# EAGLE library part XC5VLX110T_FF1738 (library xilinx-virtex-v5)
xc5vlx110t_ff1738 edit this description Auto generated by make-symbol-device-package-bsdl.ulp Rev. 21 Source: xc5vlx110t_ff1738.bsd
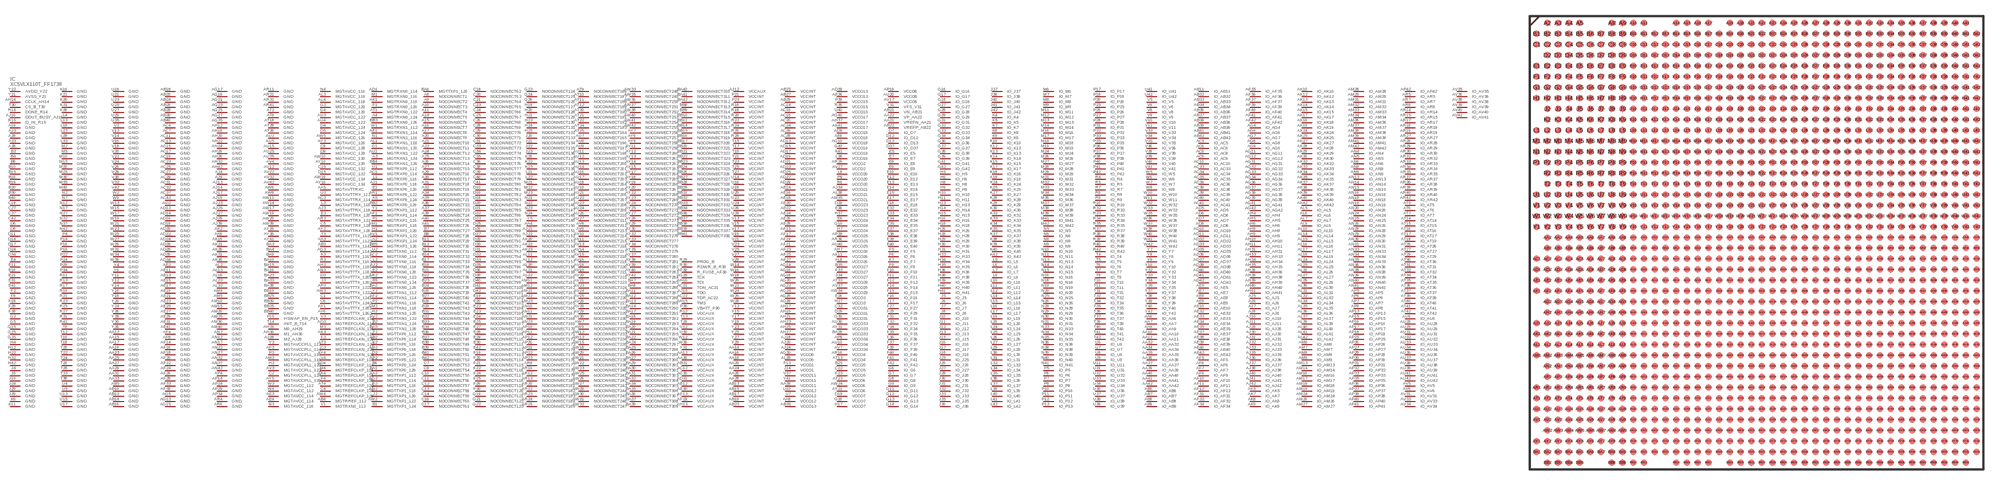
[diagram p0: symbol with the pads of FF1738; footprint FF1738]

Designator prefix IC

## XC5VLX110T_FF1738 (OC_FARNELL: unknown; OC_NEWARK: unknown)  [FF1738]
A2  MGTRXP1_124  pas
A3  MGTRXN1_124  pas
A4  MGTRXN0_124  pas
A5  MGTRXP0_124  pas
A8  NOCONNECT1  pas
A9  NOCONNECT2  pas
A10  NOCONNECT3  pas
A11  NOCONNECT4  pas
A14  NOCONNECT5  pas
A15  NOCONNECT6  pas
A16  NOCONNECT7  pas
A17  NOCONNECT8  pas
A19  GND  pwr
A20  NOCONNECT9  pas
A21  NOCONNECT10  pas
A22  NOCONNECT11  pas
A23  GND  pwr
A24  NOCONNECT12  pas
A25  NOCONNECT13  pas
A26  NOCONNECT14  pas
A27  NOCONNECT15  pas
A28  GND  pwr
A29  NOCONNECT16  pas
A30  NOCONNECT17  pas
A31  NOCONNECT18  pas
A32  NOCONNECT19  pas
A33  GND  pwr
A34  NOCONNECT20  pas
A35  NOCONNECT21  pas
A36  NOCONNECT22  pas
A37  NOCONNECT23  pas
A38  GND  pwr
A39  NOCONNECT24  pas
A40  NOCONNECT25  pas
A41  NOCONNECT26  pas
AA2  MGTTXP1_112  pas
AA3  MGTAVTTTX_1122  pas
AA4  NOCONNECT150  pas
AA5  MGTAVTTRXC  pas
AA6  IO_AA6
AA7  IO_AA7
AA8  VCCO12  pwr
AA9  IO_AA9
AA10  IO_AA10
AA11  IO_AA11
AA12  VCCAUX  pwr
AA13  GND  pwr
AA14  VCCINT  pwr
AA15  GND  pwr
AA16  VCCINT  pwr
AA17  GND  pwr
AA18  VCCINT  pwr
AA19  GND  pwr
AA20  VCCINT  pwr
AA21  VREFN_AA21  pas
AA22  VP_AA22  pas
AA23  GND  pwr
AA24  VCCINT  pwr
AA25  GND  pwr
AA26  VCCINT  pwr
AA27  GND  pwr
AA28  VCCINT  pwr
AA29  GND  pwr
AA30  VCCAUX  pwr
AA31  GND  pwr
AA32  IO_AA32
AA33  GND  pwr
AA34  IO_AA34
AA35  IO_AA35
AA36  IO_AA36
AA37  IO_AA37
AA38  VCCO11  pwr
AA39  IO_AA39
AA40  IO_AA40
AA41  IO_AA41
AA42  IO_AA42
AB2  MGTTXP0_114  pas
AB3  MGTAVTTTX_1141  pas
AB4  MGTRREF_112  pas
AB5  GND  pwr
AB6  IO_AB6
AB7  IO_AB7
AB8  IO_AB8
AB9  IO_AB9
AB10  GND  pwr
AB11  IO_AB11
AB12  GND  pwr
AB13  VCCINT  pwr
AB14  GND  pwr
AB15  VCCINT  pwr
AB16  GND  pwr
AB17  VCCINT  pwr
AB18  GND  pwr
AB19  VCCINT  pwr
AB20  GND  pwr
AB21  VN_AB21  pas
AB22  VREFP_AB22  pas
AB23  VCCINT  pwr
AB24  GND  pwr
AB25  VCCINT  pwr
AB26  GND  pwr
AB27  VCCINT  pwr
AB28  GND  pwr
AB29  VCCINT  pwr
AB30  GND  pwr
AB31  VCCAUX  pwr
AB32  IO_AB32
AB33  IO_AB33
AB34  IO_AB34
AB35  VCCO13  pwr
AB36  IO_AB36
AB37  IO_AB37
AB38  IO_AB38
AB39  IO_AB39
AB40  GND  pwr
AB41  IO_AB41
AB42  IO_AB42
AC1  MGTRXP0_114  pas
AC2  MGTTXN0_114  pas
AC3  MGTAVTTRX_114  pas
AC4  GND  pwr
AC5  IO_AC5
AC6  IO_AC6
AC7  GND  pwr
AC8  IO_AC8
AC9  IO_AC9
AC10  IO_AC10
AC11  GND  pwr
AC12  VCCAUX  pwr
AC13  GND  pwr
AC14  VCCINT  pwr
AC15  GND  pwr
AC16  VCCINT  pwr
AC17  GND  pwr
AC18  VCCINT  pwr
AC19  GND  pwr
AC20  VCCINT  pwr
AC21  TDN_AC21  pas
AC22  TDP_AC22  pas
AC23  GND  pwr
AC24  VCCINT  pwr
AC25  GND  pwr
AC26  VCCINT  pwr
AC27  GND  pwr
AC28  VCCINT  pwr
AC29  GND  pwr
AC30  VCCAUX  pwr
AC31  GND  pwr
AC32  GND  pwr
AC33  IO_AC33
AC34  IO_AC34
AC35  IO_AC35
AC36  IO_AC36
AC37  GND  pwr
AC38  IO_AC38
AC39  IO_AC39
AC40  IO_AC40
AC41  IO_AC41
AC42  GND  pwr
AD1  MGTRXN0_114  pas
AD2  GND  pwr
AD3  MGTREFCLKN_114  pas
AD4  MGTREFCLKP_114  pas
AD5  IO_AD5
AD6  IO_AD6
AD7  IO_AD7
AD8  IO_AD8
AD9  VCCO18  pwr
AD10  IO_AD10
AD11  IO_AD11
AD12  GND  pwr
AD13  VCCINT  pwr
AD14  GND  pwr
AD15  VCCINT  pwr
AD16  GND  pwr
AD17  VCCINT  pwr
AD18  GND  pwr
AD19  VCCINT  pwr
AD20  GND  pwr
AD21  VCCINT  pwr
AD22  GND  pwr
AD23  VCCINT  pwr
AD24  GND  pwr
AD25  VCCINT  pwr
AD26  GND  pwr
AD27  VCCINT  pwr
AD28  GND  pwr
AD29  VCCINT  pwr
AD30  GND  pwr
AD31  VCCAUX  pwr
AD32  IO_AD32
AD33  IO_AD33
AD34  GND  pwr
AD35  IO_AD35
AD36  IO_AD36
AD37  IO_AD37
AD38  IO_AD38
AD39  VCCO13  pwr
AD40  IO_AD40
AD41  IO_AD41
AD42  IO_AD42
AE1  MGTRXN1_114  pas
AE2  GND  pwr
AE3  MGTAVCC_114  pwr
AE4  MGTAVCC_114  pwr
AE5  IO_AE5
AE6  VCCO18  pwr
AE7  IO_AE7
AE8  IO_AE8
AE9  IO_AE9
AE10  IO_AE10
AE11  GND  pwr
AE12  VCCAUX  pwr
AE13  GND  pwr
AE14  VCCINT  pwr
AE15  GND  pwr
AE16  VCCINT  pwr
AE17  GND  pwr
AE18  VCCINT  pwr
AE19  GND  pwr
AE20  VCCINT  pwr
AE21  GND  pwr
AE22  VCCINT  pwr
AE23  GND  pwr
AE24  VCCINT  pwr
AE25  GND  pwr
AE26  VCCINT  pwr
AE27  GND  pwr
AE28  VCCINT  pwr
AE29  GND  pwr
AE30  VCCAUX  pwr
AE31  GND  pwr
AE32  IO_AE32
AE33  IO_AE33
AE34  IO_AE34
AE35  IO_AE35
AE36  VCCO13  pwr
AE37  IO_AE37
AE38  IO_AE38
AE39  IO_AE39
AE40  IO_AE40
AE41  GND  pwr
AE42  IO_AE42
AF1  MGTRXP1_114  pas
AF2  MGTTXN1_114  pas
AF3  MGTAVCCPLL_114  pwr
AF4  GND  pwr
AF5  IO_AF5
AF6  IO_AF6
AF7  IO_AF7
AF8  GND  pwr
AF9  IO_AF9
AF10  IO_AF10
AF11  IO_AF11
AF12  IO_AF12
AF13  VCCAUX  pwr
AF14  GND  pwr
AF15  VCCINT  pwr
AF16  GND  pwr
AF17  VCCINT  pwr
AF18  GND  pwr
AF19  VCCINT  pwr
AF20  GND  pwr
AF21  VCCINT  pwr
AF22  GND  pwr
AF23  VCCINT  pwr
AF24  GND  pwr
AF25  VCCINT  pwr
AF26  GND  pwr
AF27  VCCINT  pwr
AF28  GND  pwr
AF29  VCCAUX  pwr
AF30  R_FUSE_AF30  pas
AF31  IO_AF31
AF32  IO_AF32
AF33  GND  pwr
AF34  IO_AF34
AF35  IO_AF35
AF36  IO_AF36
AF37  IO_AF37
AF38  GND  pwr
AF39  IO_AF39
AF40  IO_AF40
AF41  IO_AF41
AF42  IO_AF42
AG2  MGTTXP1_114  pas
AG3  MGTAVTTTX_1142  pas
AG4  IO_AG4
AG5  GND  pwr
AG6  IO_AG6
AG7  IO_AG7
AG8  IO_AG8
AG9  IO_AG9
AG10  VCCO18  pwr
AG11  IO_AG11
AG12  IO_AG12
AG13  GND  pwr
AG14  VCCINT  pwr
AG15  GND  pwr
AG16  VCCINT  pwr
AG17  GND  pwr
AG18  VCCINT  pwr
AG19  GND  pwr
AG20  VCCINT  pwr
AG21  GND  pwr
AG22  VCCINT  pwr
AG23  GND  pwr
AG24  VCCINT  pwr
AG25  GND  pwr
AG26  VCCINT  pwr
AG27  GND  pwr
AG28  VCCINT  pwr
AG29  TCK  in
AG30  VCCO0  pwr
AG31  IO_AG31
AG32  IO_AG32
AG33  IO_AG33
AG34  IO_AG34
AG35  GND  pwr
AG36  IO_AG36
AG37  IO_AG37
AG38  IO_AG38
AG39  IO_AG39
AG40  VCCO17  pwr
AG41  IO_AG41
AG42  IO_AG42
AH2  MGTTXP0_118  pas
AH3  MGTAVTTTX_1181  pas
AH4  IO_AH4
AH5  IO_AH5
AH6  IO_AH6
AH7  VCCO26  pwr
AH8  IO_AH8
AH9  IO_AH9
AH10  IO_AH10
AH11  IO_AH11
AH12  GND  pwr
AH13  VCCAUX  pwr
AH14  CCLK_AH14
AH15  TMS  in
AH16  TDI  in
AH17  VCCINT  pwr
AH18  GND  pwr
AH19  VCCINT  pwr
AH20  GND  pwr
AH21  VCCINT  pwr
AH22  GND  pwr
AH23  VCCINT  pwr
AH24  GND  pwr
AH25  VCCINT  pwr
AH26  GND  pwr
AH27  VCCINT  pwr
AH28  GND  pwr
AH29  M0_AH29  in
AH30  M1_AH30  in
AH31  IO_AH31
AH32  GND  pwr
AH33  IO_AH33
AH34  IO_AH34
AH35  IO_AH35
AH36  IO_AH36
AH37  VCCO17  pwr
AH38  IO_AH38
AH39  IO_AH39
AH40  IO_AH40
AH41  IO_AH41
AH42  GND  pwr
AJ1  MGTRXP0_118  pas
AJ2  MGTTXN0_118  pas
AJ3  MGTAVTTRX_118  pas
AJ4  GND  pwr
AJ5  IO_AJ5
AJ6  IO_AJ6
AJ7  IO_AJ7
AJ8  IO_AJ8
AJ9  GND  pwr
AJ10  IO_AJ10
AJ11  IO_AJ11
AJ12  VCCAUX  pwr
AJ13  GND  pwr
AJ14  GND  pwr
AJ15  TDO  out
AJ16  DOUT_BUSY_AJ16  out
AJ17  GND  pwr
AJ18  VCCINT  pwr
AJ19  GND  pwr
AJ20  VCCINT  pwr
AJ21  NOCONNECT151  pas
AJ22  NOCONNECT152  pas
AJ23  GND  pwr
AJ24  VCCINT  pwr
AJ25  GND  pwr
AJ26  IO_AJ26
AJ27  GND  pwr
AJ28  M2_AJ28  in
AJ29  GND  pwr
AJ30  IO_AJ30
AJ31  IO_AJ31
AJ32  IO_AJ32
AJ33  IO_AJ33
AJ34  VCCO21  pwr
AJ35  IO_AJ35
AJ36  IO_AJ36
AJ37  IO_AJ37
AJ38  IO_AJ38
AJ39  GND  pwr
AJ40  IO_AJ40
AJ41  IO_AJ41
AJ42  IO_AJ42
AK1  MGTRXN0_118  pas
AK2  GND  pwr
AK3  MGTREFCLKN_118  pas
AK4  MGTREFCLKP_118  pas
AK5  IO_AK5
AK6  GND  pwr
AK7  IO_AK7
AK8  IO_AK8
AK9  IO_AK9
AK10  IO_AK10
AK11  VCCO26  pwr
AK12  IO_AK12
AK13  IO_AK13
AK14  IO_AK14
AK15  IO_AK15
AK16  GND  pwr
AK17  IO_AK17
AK18  IO_AK18
AK19  IO_AK19
AK20  NOCONNECT153  pas
AK21  GND  pwr
AK22  NOCONNECT154  pas
AK23  NOCONNECT155  pas
AK24  IO_AK24
AK25  IO_AK25
AK26  GND  pwr
AK27  IO_AK27
AK28  IO_AK28
AK29  IO_AK29
AK30  IO_AK30
AK31  GND  pwr
AK32  IO_AK32
AK33  IO_AK33
AK34  IO_AK34
AK35  IO_AK35
AK36  GND  pwr
AK37  IO_AK37
AK38  IO_AK38
AK39  IO_AK39
AK40  IO_AK40
AK41  VCCO17  pwr
AK42  IO_AK42
AL1  MGTRXN1_118  pas
AL2  GND  pwr
AL3  MGTAVCC_118  pwr
AL4  MGTAVCC_118  pwr
AL5  IO_AL5
AL6  IO_AL6
AL7  IO_AL7
AL8  VCCO26  pwr
AL9  IO_AL9
AL10  IO_AL10
AL11  NOCONNECT156  pas
AL12  NOCONNECT157  pas
AL13  GND  pwr
AL14  IO_AL14
AL15  IO_AL15
AL16  IO_AL16
AL17  IO_AL17
AL18  GND  pwr
AL19  IO_AL19
AL20  NOCONNECT158  pas
AL21  NOCONNECT159  pas
AL22  NOCONNECT160  pas
AL23  GND  pwr
AL24  IO_AL24
AL25  IO_AL25
AL26  IO_AL26
AL27  IO_AL27
AL28  VCCO0  pwr
AL29  IO_AL29
AL30  IO_AL30
AL31  IO_AL31
AL32  IO_AL32
AL33  GND  pwr
AL34  IO_AL34
AL35  IO_AL35
AL36  IO_AL36
AL37  IO_AL37
AL38  VCCO21  pwr
AL39  IO_AL39
AL40  IO_AL40
AL41  IO_AL41
AL42  IO_AL42
AM1  MGTRXP1_118  pas
AM2  MGTTXN1_118  pas
AM3  MGTAVCCPLL_118  pwr
AM4  GND  pwr
AM5  GND  pwr
AM6  IO_AM6
AM7  IO_AM7
AM8  IO_AM8
AM9  IO_AM9
AM10  GND  pwr
AM11  NOCONNECT161  pas
AM12  NOCONNECT162  pas
AM13  IO_AM13
AM14  IO_AM14
AM15  GND  pwr
AM16  IO_AM16
AM17  IO_AM17
AM18  IO_AM18
AM19  IO_AM19
AM20  GND  pwr
AM21  NOCONNECT163  pas
AM22  NOCONNECT164  pas
AM23  NOCONNECT165  pas
AM24  IO_AM24
AM25  GND  pwr
AM26  IO_AM26
AM27  IO_AM27
AM28  IO_AM28
AM29  IO_AM29
AM30  GND  pwr
AM31  IO_AM31
AM32  IO_AM32
AM33  IO_AM33
AM34  IO_AM34
AM35  VCCO21  pwr
AM36  IO_AM36
AM37  IO_AM37
AM38  IO_AM38
AM39  IO_AM39
AM40  GND  pwr
AM41  IO_AM41
AM42  IO_AM42
AN2  MGTTXP1_118  pas
AN3  MGTAVTTTX_1182  pas
AN4  IO_AN4
AN5  IO_AN5
AN6  IO_AN6
AN7  GND  pwr
AN8  IO_AN8
AN9  IO_AN9
AN10  NOCONNECT166  pas
AN11  NOCONNECT167  pas
AN12  GND  pwr
AN13  IO_AN13
AN14  IO_AN14
AN15  IO_AN15
AN16  IO_AN16
AN17  GND  pwr
AN18  IO_AN18
AN19  IO_AN19
AN20  IO_AN20
AN21  NOCONNECT168  pas
AN22  GND  pwr
AN23  NOCONNECT169  pas
AN24  IO_AN24
AN25  IO_AN25
AN26  IO_AN26
AN27  GND  pwr
AN28  IO_AN28
AN29  IO_AN29
AN30  IO_AN30
AN31  IO_AN31
AN32  GND  pwr
AN33  IO_AN33
AN34  IO_AN34
AN35  IO_AN35
AN36  IO_AN36
AN37  GND  pwr
AN38  IO_AN38
AN39  IO_AN39
AN40  IO_AN40
AN41  IO_AN41
AN42  GND  pwr
AP2  MGTTXP0_122  pas
AP3  MGTAVTTTX_1221  pas
AP4  GND  pwr
AP5  IO_AP5
AP6  IO_AP6
AP7  IO_AP7
AP8  IO_AP8
AP9  VCCO34  pwr
AP10  NOCONNECT170  pas
AP11  NOCONNECT171  pas
AP12  NOCONNECT172  pas
AP13  IO_AP13
AP14  GND  pwr
AP15  IO_AP15
AP16  IO_AP16
AP17  IO_AP17
AP18  IO_AP18
AP19  VCCO8  pwr
AP20  NOCONNECT173  pas
AP21  NOCONNECT174  pas
AP22  NOCONNECT175  pas
AP23  NOCONNECT176  pas
AP24  GND  pwr
AP25  IO_AP25
AP26  IO_AP26
AP27  IO_AP27
AP28  IO_AP28
AP29  GND  pwr
AP30  IO_AP30
AP31  IO_AP31
AP32  IO_AP32
AP33  IO_AP33
AP34  GND  pwr
AP35  IO_AP35
AP36  IO_AP36
AP37  IO_AP37
AP38  IO_AP38
AP39  VCCO25  pwr
AP40  IO_AP40
AP41  IO_AP41
AP42  IO_AP42
AR1  MGTRXP0_122  pas
AR2  MGTTXN0_122  pas
AR3  MGTAVTTRX_122  pas
AR4  GND  pwr
AR5  IO_AR5
AR6  GND  pwr
AR7  IO_AR7
AR8  IO_AR8
AR9  NOCONNECT177  pas
AR10  NOCONNECT178  pas
AR11  GND  pwr
AR12  NOCONNECT179  pas
AR13  NOCONNECT180  pas
AR14  IO_AR14
AR15  IO_AR15
AR16  VCCO4  pwr
AR17  IO_AR17
AR18  IO_AR18
AR19  IO_AR19
AR20  NOCONNECT181  pas
AR21  GND  pwr
AR22  NOCONNECT182  pas
AR23  NOCONNECT183  pas
AR24  NOCONNECT184  pas
AR25  NOCONNECT185  pas
AR26  VCCO2  pwr
AR27  IO_AR27
AR28  IO_AR28
AR29  IO_AR29
AR30  IO_AR30
AR31  GND  pwr
AR32  IO_AR32
AR33  IO_AR33
AR34  IO_AR34
AR35  IO_AR35
AR36  VCCO25  pwr
AR37  IO_AR37
AR38  IO_AR38
AR39  IO_AR39
AR40  IO_AR40
AR41  GND  pwr
AR42  IO_AR42
AT1  MGTRXN0_122  pas
AT2  GND  pwr
AT3  MGTREFCLKN_122  pas
AT4  MGTREFCLKP_122  pas
AT5  IO_AT5
AT6  IO_AT6
AT7  IO_AT7
AT8  GND  pwr
AT9  NOCONNECT186  pas
AT10  NOCONNECT187  pas
AT11  NOCONNECT188  pas
AT12  NOCONNECT189  pas
AT13  VCCO4  pwr
AT14  IO_AT14
AT15  IO_AT15
AT16  IO_AT16
AT17  IO_AT17
AT18  GND  pwr
AT19  IO_AT19
AT20  NOCONNECT190  pas
AT21  NOCONNECT191  pas
AT22  NOCONNECT192  pas
AT23  VCCO6  pwr
AT24  NOCONNECT193  pas
AT25  NOCONNECT194  pas
AT26  IO_AT26
AT27  IO_AT27
AT28  GND  pwr
AT29  IO_AT29
AT30  IO_AT30
AT31  IO_AT31
AT32  IO_AT32
AT33  VCCO29  pwr
AT34  IO_AT34
AT35  IO_AT35
AT36  IO_AT36
AT37  IO_AT37
AT38  GND  pwr
AT39  IO_AT39
AT40  IO_AT40
AT41  IO_AT41
AT42  IO_AT42
AU1  MGTRXN1_122  pas
AU2  GND  pwr
AU3  MGTAVCC_122  pwr
AU4  MGTAVCC_122  pwr
AU5  GND  pwr
AU6  IO_AU6
AU7  NOCONNECT195  pas
AU8  NOCONNECT196  pas
AU9  NOCONNECT197  pas
AU10  VCCO34  pwr
AU11  NOCONNECT198  pas
AU12  NOCONNECT199  pas
AU13  NOCONNECT200  pas
AU14  NOCONNECT201  pas
AU15  GND  pwr
AU16  NOCONNECT202  pas
AU17  NOCONNECT203  pas
AU18  NOCONNECT204  pas
AU19  NOCONNECT205  pas
AU20  VCCO8  pwr
AU21  NOCONNECT206  pas
AU22  NOCONNECT207  pas
AU23  NOCONNECT208  pas
AU24  NOCONNECT209  pas
AU25  GND  pwr
AU26  NOCONNECT210  pas
AU27  NOCONNECT211  pas
AU28  IO_AU28
AU29  IO_AU29
AU30  VCCO33  pwr
AU31  IO_AU31
AU32  IO_AU32
AU33  IO_AU33
AU34  IO_AU34
AU35  GND  pwr
AU36  IO_AU36
AU37  IO_AU37
AU38  IO_AU38
AU39  IO_AU39
AU40  VCCO25  pwr
AU41  IO_AU41
AU42  IO_AU42
AV1  MGTRXP1_122  pas
AV2  MGTTXN1_122  pas
AV3  MGTAVCCPLL_122  pwr
AV4  GND  pwr
AV5  IO_AV5
AV6  IO_AV6
AV7  VCCO34  pwr
AV8  NOCONNECT212  pas
AV9  NOCONNECT213  pas
AV10  NOCONNECT214  pas
AV11  NOCONNECT215  pas
AV12  GND  pwr
AV13  NOCONNECT216  pas
AV14  NOCONNECT217  pas
AV15  NOCONNECT218  pas
AV16  NOCONNECT219  pas
AV17  VCCO8  pwr
AV18  NOCONNECT220  pas
AV19  NOCONNECT221  pas
AV20  NOCONNECT222  pas
AV21  NOCONNECT223  pas
AV22  GND  pwr
AV23  NOCONNECT224  pas
AV24  NOCONNECT225  pas
AV25  NOCONNECT226  pas
AV26  NOCONNECT227  pas
AV27  VCCO2  pwr
AV28  NOCONNECT228  pas
AV29  NOCONNECT229  pas
AV30  NOCONNECT230  pas
AV31  IO_AV31
AV32  GND  pwr
AV33  IO_AV33
AV34  IO_AV34
AV35  IO_AV35
AV36  IO_AV36
AV37  VCCO29  pwr
AV38  IO_AV38
AV39  IO_AV39
AV40  IO_AV40
AV41  IO_AV41
AV42  GND  pwr
AW2  MGTTXP1_122  pas
AW3  MGTAVTTTX_1222  pas
AW4  MGTREFCLKP_126  pas
AW5  MGTAVCC_126  pwr
AW6  GND  pwr
AW7  NOCONNECT231  pas
AW8  GND  pwr
AW9  NOCONNECT232  pas
AW10  MGTAVCC_130  pwr
AW11  GND  pwr
AW12  NOCONNECT233  pas
AW13  NOCONNECT234  pas
AW14  GND  pwr
AW15  NOCONNECT235  pas
AW16  MGTAVCC_134  pwr
AW17  GND  pwr
AW18  NOCONNECT236  pas
AW19  GND  pwr
AW20  NOCONNECT237  pas
AW21  NOCONNECT238  pas
AW22  NOCONNECT239  pas
AW23  NOCONNECT240  pas
AW24  VCCO6  pwr
AW25  NOCONNECT241  pas
AW26  NOCONNECT242  pas
AW27  NOCONNECT243  pas
AW28  NOCONNECT244  pas
AW29  GND  pwr
AW30  NOCONNECT245  pas
AW31  NOCONNECT246  pas
AW32  NOCONNECT247  pas
AW33  NOCONNECT248  pas
AW34  VCCO29  pwr
AW35  NOCONNECT249  pas
AW36  NOCONNECT250  pas
AW37  NOCONNECT251  pas
AW38  NOCONNECT252  pas
AW39  GND  pwr
AW40  NOCONNECT253  pas
AW41  NOCONNECT254  pas
AW42  NOCONNECT255  pas
AY1  MGTAVTTTX_1261  pas
AY2  MGTAVTTRX_126  pas
AY3  MGTAVCC_126  pwr
AY4  MGTREFCLKN_126  pas
AY5  MGTAVCCPLL_126  pwr
AY6  MGTAVTTTX_1262  pas
AY7  NOCONNECT256  pas
AY8  NOCONNECT257  pas
AY9  NOCONNECT258  pas
AY10  MGTAVCC_130  pwr
AY11  NOCONNECT259  pas
AY12  NOCONNECT260  pas
AY13  NOCONNECT261  pas
AY14  NOCONNECT262  pas
AY15  NOCONNECT263  pas
AY16  MGTAVCC_134  pwr
AY17  NOCONNECT264  pas
AY18  NOCONNECT265  pas
AY19  NOCONNECT266  pas
AY20  NOCONNECT267  pas
AY21  VCCO6  pwr
AY22  NOCONNECT268  pas
AY23  NOCONNECT269  pas
AY24  NOCONNECT270  pas
AY25  NOCONNECT271  pas
AY26  GND  pwr
AY27  NOCONNECT272  pas
AY28  NOCONNECT273  pas
AY29  NOCONNECT274  pas
AY30  NOCONNECT275  pas
AY31  VCCO33  pwr
AY32  NOCONNECT276  pas
AY33  NOCONNECT277  pas
AY34  NOCONNECT278  pas
AY35  NOCONNECT279  pas
AY36  GND  pwr
AY37  NOCONNECT280  pas
AY38  NOCONNECT281  pas
AY39  NOCONNECT282  pas
AY40  NOCONNECT283  pas
AY41  GND  pwr
AY42  NOCONNECT284  pas
B1  MGTTXP1_124  pas
B2  MGTTXN1_124  pas
B3  GND  pwr
B4  GND  pwr
B5  MGTTXN0_124  pas
B6  MGTTXP0_124  pas
B7  NOCONNECT27  pas
B8  NOCONNECT28  pas
B9  GND  pwr
B10  GND  pwr
B11  NOCONNECT29  pas
B12  NOCONNECT30  pas
B13  NOCONNECT31  pas
B14  NOCONNECT32  pas
B15  GND  pwr
B16  GND  pwr
B17  NOCONNECT33  pas
B18  NOCONNECT34  pas
B19  GND  pwr
B20  GND  pwr
B21  NOCONNECT35  pas
B22  NOCONNECT36  pas
B23  NOCONNECT37  pas
B24  NOCONNECT38  pas
B25  VCCO5  pwr
B26  NOCONNECT39  pas
B27  NOCONNECT40  pas
B28  NOCONNECT41  pas
B29  NOCONNECT42  pas
B30  GND  pwr
B31  NOCONNECT43  pas
B32  NOCONNECT44  pas
B33  NOCONNECT45  pas
B34  NOCONNECT46  pas
B35  VCCO27  pwr
B36  NOCONNECT47  pas
B37  NOCONNECT48  pas
B38  NOCONNECT49  pas
B39  NOCONNECT50  pas
B40  GND  pwr
B41  NOCONNECT51  pas
B42  NOCONNECT52  pas
BA1  MGTTXP0_126  pas
BA2  MGTTXN0_126  pas
BA3  GND  pwr
BA4  GND  pwr
BA5  MGTTXN1_126  pas
BA6  MGTTXP1_126  pas
BA7  NOCONNECT285  pas
BA8  NOCONNECT286  pas
BA9  GND  pwr
BA10  GND  pwr
BA11  NOCONNECT287  pas
BA12  NOCONNECT288  pas
BA13  NOCONNECT289  pas
BA14  NOCONNECT290  pas
BA15  GND  pwr
BA16  GND  pwr
BA17  NOCONNECT291  pas
BA18  NOCONNECT292  pas
BA19  NOCONNECT293  pas
BA20  NOCONNECT294  pas
BA21  NOCONNECT295  pas
BA22  NOCONNECT296  pas
BA23  GND  pwr
BA24  NOCONNECT297  pas
BA25  NOCONNECT298  pas
BA26  NOCONNECT299  pas
BA27  NOCONNECT300  pas
BA28  VCCO33  pwr
BA29  NOCONNECT301  pas
BA30  NOCONNECT302  pas
BA31  NOCONNECT303  pas
BA32  NOCONNECT304  pas
BA33  GND  pwr
BA34  NOCONNECT305  pas
BA35  NOCONNECT306  pas
BA36  NOCONNECT307  pas
BA37  NOCONNECT308  pas
BA38  GND  pwr
BA39  NOCONNECT309  pas
BA40  NOCONNECT310  pas
BA41  NOCONNECT311  pas
BA42  NOCONNECT312  pas
BB2  MGTRXP0_126  pas
BB3  MGTRXN0_126  pas
BB4  MGTRXN1_126  pas
BB5  MGTRXP1_126  pas
BB8  NOCONNECT313  pas
BB9  NOCONNECT314  pas
BB10  NOCONNECT315  pas
BB11  NOCONNECT316  pas
BB14  NOCONNECT317  pas
BB15  NOCONNECT318  pas
BB16  NOCONNECT319  pas
BB17  NOCONNECT320  pas
BB19  GND  pwr
BB20  NOCONNECT321  pas
BB21  NOCONNECT322  pas
BB22  NOCONNECT323  pas
BB23  NOCONNECT324  pas
BB24  NOCONNECT325  pas
BB25  GND  pwr
BB26  NOCONNECT326  pas
BB27  NOCONNECT327  pas
BB28  NOCONNECT328  pas
BB29  NOCONNECT329  pas
BB30  GND  pwr
BB31  NOCONNECT330  pas
BB32  NOCONNECT331  pas
BB33  NOCONNECT332  pas
BB34  NOCONNECT333  pas
BB35  GND  pwr
BB36  NOCONNECT334  pas
BB37  NOCONNECT335  pas
BB38  NOCONNECT336  pas
BB39  NOCONNECT337  pas
BB40  GND  pwr
BB41  NOCONNECT338  pas
C1  MGTAVTTTX_1241  pas
C2  MGTAVCCPLL_124  pwr
C3  MGTREFCLKN_124  pas
C4  MGTREFCLKP_124  pas
C5  MGTAVTTRX_124  pas
C6  MGTAVTTTX_1242  pas
C7  NOCONNECT53  pas
C8  NOCONNECT54  pas
C9  MGTAVCC_128  pwr
C10  NOCONNECT55  pas
C11  NOCONNECT56  pas
C12  NOCONNECT57  pas
C13  NOCONNECT58  pas
C14  NOCONNECT59  pas
C15  MGTAVCC_132  pwr
C16  NOCONNECT60  pas
C17  NOCONNECT61  pas
C18  NOCONNECT62  pas
C19  GND  pwr
C20  NOCONNECT63  pas
C21  NOCONNECT64  pas
C22  VCCO5  pwr
C23  NOCONNECT65  pas
C24  NOCONNECT66  pas
C25  NOCONNECT67  pas
C26  NOCONNECT68  pas
C27  GND  pwr
C28  NOCONNECT69  pas
C29  NOCONNECT70  pas
C30  NOCONNECT71  pas
C31  NOCONNECT72  pas
C32  VCCO31  pwr
C33  NOCONNECT73  pas
C34  NOCONNECT74  pas
C35  NOCONNECT75  pas
C36  NOCONNECT76  pas
C37  GND  pwr
C38  NOCONNECT77  pas
C39  NOCONNECT78  pas
C40  NOCONNECT79  pas
C41  NOCONNECT80  pas
C42  GND  pwr
D2  MGTTXP0_120  pas
D3  MGTAVTTTX_1201  pas
D4  MGTAVCC_124  pwr
D5  MGTAVCC_124  pwr
D6  GND  pwr
D7  IO_D7
D8  GND  pwr
D9  MGTAVCC_128  pwr
D10  NOCONNECT81  pas
D11  GND  pwr
D12  IO_D12
D13  IO_D13
D14  GND  pwr
D15  MGTAVCC_132  pwr
D16  NOCONNECT82  pas
D17  GND  pwr
D18  NOCONNECT83  pas
D19  VCCO7  pwr
D20  NOCONNECT84  pas
D21  NOCONNECT85  pas
D22  NOCONNECT86  pas
D23  NOCONNECT87  pas
D24  GND  pwr
D25  NOCONNECT88  pas
D26  NOCONNECT89  pas
D27  NOCONNECT90  pas
D28  NOCONNECT91  pas
D29  VCCO31  pwr
D30  NOCONNECT92  pas
D31  NOCONNECT93  pas
D32  NOCONNECT94  pas
D33  NOCONNECT95  pas
D34  GND  pwr
D35  NOCONNECT96  pas
D36  NOCONNECT97  pas
D37  IO_D37
D38  NOCONNECT98  pas
D39  VCCO23  pwr
D40  NOCONNECT99  pas
D41  NOCONNECT100  pas
D42  NOCONNECT101  pas
E1  MGTRXP0_120  pas
E2  MGTTXN0_120  pas
E3  MGTAVTTRX_120  pas
E4  GND  pwr
E5  IO_E5
E6  VCCO24  pwr
E7  IO_E7
E8  IO_E8
E9  IO_E9
E10  IO_E10
E11  GND  pwr
E12  IO_E12
E13  IO_E13
E14  IO_E14
E15  IO_E15
E16  GND  pwr
E17  IO_E17
E18  IO_E18
E19  NOCONNECT102  pas
E20  NOCONNECT103  pas
E21  GND  pwr
E22  NOCONNECT104  pas
E23  NOCONNECT105  pas
E24  NOCONNECT106  pas
E25  NOCONNECT107  pas
E26  VCCO3  pwr
E27  NOCONNECT108  pas
E28  NOCONNECT109  pas
E29  NOCONNECT110  pas
E30  NOCONNECT111  pas
E31  GND  pwr
E32  IO_E32
E33  IO_E33
E34  IO_E34
E35  IO_E35
E36  VCCO23  pwr
E37  IO_E37
E38  IO_E38
E39  IO_E39
E40  IO_E40
E41  GND  pwr
E42  NOCONNECT112  pas
F1  MGTRXN0_120  pas
F2  GND  pwr
F3  MGTREFCLKN_120  pas
F4  MGTREFCLKP_120  pas
F5  IO_F5
F6  IO_F6
F7  IO_F7
F8  GND  pwr
F9  IO_F9
F10  IO_F10
F11  IO_F11
F12  IO_F12
F13  VCCO1  pwr
F14  IO_F14
F15  IO_F15
F16  IO_F16
F17  IO_F17
F18  GND  pwr
F19  NOCONNECT113  pas
F20  NOCONNECT114  pas
F21  NOCONNECT115  pas
F22  NOCONNECT116  pas
F23  VCCO5  pwr
F24  NOCONNECT117  pas
F25  NOCONNECT118  pas
F26  NOCONNECT119  pas
F27  IO_F27
F28  GND  pwr
F29  IO_F29
F30  NOCONNECT120  pas
F31  IO_F31
F32  IO_F32
F33  VCCO27  pwr
F34  IO_F34
F35  IO_F35
F36  IO_F36
F37  IO_F37
F38  GND  pwr
F39  IO_F39
F40  IO_F40
F41  IO_F41
F42  IO_F42
G1  MGTRXN1_120  pas
G2  GND  pwr
G3  MGTAVCC_120  pwr
G4  MGTAVCC_120  pwr
G5  GND  pwr
G6  IO_G6
G7  IO_G7
G8  IO_G8
G9  IO_G9
G10  VCCO24  pwr
G11  IO_G11
G12  IO_G12
G13  IO_G13
G14  IO_G14
G15  GND  pwr
G16  IO_G16
G17  IO_G17
G18  IO_G18
G19  NOCONNECT121  pas
G20  VCCO7  pwr
G21  NOCONNECT122  pas
G22  NOCONNECT123  pas
G23  NOCONNECT124  pas
G24  NOCONNECT125  pas
G25  GND  pwr
G26  NOCONNECT126  pas
G27  IO_G27
G28  IO_G28
G29  IO_G29
G30  VCCO31  pwr
G31  IO_G31
G32  IO_G32
G33  IO_G33
G34  IO_G34
G35  GND  pwr
G36  IO_G36
G37  IO_G37
G38  IO_G38
G39  IO_G39
G40  VCCO19  pwr
G41  IO_G41
G42  IO_G42
H1  MGTRXP1_120  pas
H2  MGTTXN1_120  pas
H3  MGTAVCCPLL_120  pwr
H4  GND  pwr
H5  IO_H5
H6  IO_H6
H7  VCCO24  pwr
H8  IO_H8
H9  IO_H9
H10  IO_H10
H11  IO_H11
H12  GND  pwr
H13  IO_H13
H14  IO_H14
H15  IO_H15
H16  IO_H16
H17  VCCO7  pwr
H18  IO_H18
H19  NOCONNECT127  pas
H20  NOCONNECT128  pas
H21  NOCONNECT129  pas
H22  GND  pwr
H23  NOCONNECT130  pas
H24  NOCONNECT131  pas
H25  NOCONNECT132  pas
H26  IO_H26
H27  VCCO3  pwr
H28  IO_H28
H29  IO_H29
H30  IO_H30
H31  IO_H31
H32  GND  pwr
H33  IO_H33
H34  IO_H34
H35  IO_H35
H36  IO_H36
H37  VCCO23  pwr
H38  IO_H38
H39  IO_H39
H40  IO_H40
H41  IO_H41
H42  GND  pwr
J2  MGTTXP1_120  pas
J3  MGTAVTTTX_1202  pas
J4  GND  pwr
J5  IO_J5
J6  IO_J6
J7  IO_J7
J8  IO_J8
J9  GND  pwr
J10  IO_J10
J11  IO_J11
J12  IO_J12
J13  IO_J13
J14  VCCO1  pwr
J15  IO_J15
J16  IO_J16
J17  IO_J17
J18  IO_J18
J19  GND  pwr
J20  NOCONNECT133  pas
J21  NOCONNECT134  pas
J22  NOCONNECT135  pas
J23  NOCONNECT136  pas
J24  GND  pwr
J25  IO_J25
J26  IO_J26
J27  IO_J27
J28  IO_J28
J29  GND  pwr
J30  IO_J30
J31  IO_J31
J32  IO_J32
J33  IO_J33
J34  VCCO27  pwr
J35  IO_J35
J36  IO_J36
J37  IO_J37
J38  IO_J38
J39  GND  pwr
J40  IO_J40
J41  IO_J41
J42  IO_J42
K2  MGTTXP0_116  pas
K3  MGTAVTTTX_1161  pas
K4  IO_K4
K5  IO_K5
K6  GND  pwr
K7  IO_K7
K8  IO_K8
K9  IO_K9
K10  IO_K10
K11  GND  pwr
K12  IO_K12
K13  IO_K13
K14  IO_K14
K15  IO_K15
K16  GND  pwr
K17  IO_K17
K18  IO_K18
K19  IO_K19
K20  NOCONNECT137  pas
K21  GND  pwr
K22  NOCONNECT138  pas
K23  NOCONNECT139  pas
K24  IO_K24
K25  IO_K25
K26  GND  pwr
K27  IO_K27
K28  IO_K28
K29  IO_K29
K30  IO_K30
K31  GND  pwr
K32  IO_K32
K33  IO_K33
K34  IO_K34
K35  IO_K35
K36  GND  pwr
K37  IO_K37
K38  IO_K38
K39  IO_K39
K40  IO_K40
K41  VCCO19  pwr
K42  IO_K42
L1  MGTRXP0_116  pas
L2  MGTTXN0_116  pas
L3  MGTAVTTRX_116  pas
L4  GND  pwr
L5  IO_L5
L6  IO_L6
L7  IO_L7
L8  VCCO20  pwr
L9  IO_L9
L10  IO_L10
L11  IO_L11
L12  IO_L12
L13  GND  pwr
L14  IO_L14
L15  IO_L15
L16  IO_L16
L17  IO_L17
L18  GND  pwr
L19  IO_L19
L20  IO_L20
L21  NOCONNECT140  pas
L22  NOCONNECT141  pas
L23  GND  pwr
L24  IO_L24
L25  IO_L25
L26  IO_L26
L27  IO_L27
L28  GND  pwr
L29  IO_L29
L30  IO_L30
L31  IO_L31
L32  IO_L32
L33  GND  pwr
L34  IO_L34
L35  IO_L35
L36  IO_L36
L37  IO_L37
L38  VCCO19  pwr
L39  IO_L39
L40  IO_L40
L41  IO_L41
L42  IO_L42
M1  MGTRXN0_116  pas
M2  GND  pwr
M3  MGTREFCLKN_116  pas
M4  MGTREFCLKP_116  pas
M5  GND  pwr
M6  IO_M6
M7  IO_M7
M8  IO_M8
M9  IO_M9
M10  GND  pwr
M11  IO_M11
M12  IO_M12
M13  IO_M13
M14  IO_M14
M15  GND  pwr
M16  IO_M16
M17  IO_M17
M18  IO_M18
M19  IO_M19
M20  GND  pwr
M21  NOCONNECT142  pas
M22  NOCONNECT143  pas
M23  NOCONNECT144  pas
M24  IO_M24
M25  GND  pwr
M26  IO_M26
M27  IO_M27
M28  IO_M28
M29  IO_M29
M30  GND  pwr
M31  IO_M31
M32  IO_M32
M33  IO_M33
M34  IO_M34
M35  GND  pwr
M36  IO_M36
M37  IO_M37
M38  IO_M38
M39  IO_M39
M40  GND  pwr
M41  IO_M41
M42  IO_M42
N1  MGTRXN1_116  pas
N2  GND  pwr
N3  MGTAVCC_116  pwr
N4  MGTAVCC_116  pwr
N5  IO_N5
N6  IO_N6
N7  GND  pwr
N8  IO_N8
N9  IO_N9
N10  IO_N10
N11  IO_N11
N12  GND  pwr
N13  IO_N13
N14  IO_N14
N15  IO_N15
N16  IO_N16
N17  GND  pwr
N18  IO_N18
N19  IO_N19
N20  IO_N20
N21  NOCONNECT145  pas
N22  NOCONNECT146  pas
N23  NOCONNECT147  pas
N24  NOCONNECT148  pas
N25  IO_N25
N26  IO_N26
N27  GND  pwr
N28  IO_N28
N29  IO_N29
N30  IO_N30
N31  IO_N31
N32  GND  pwr
N33  IO_N33
N34  IO_N34
N35  IO_N35
N36  IO_N36
N37  GND  pwr
N38  IO_N38
N39  IO_N39
N40  IO_N40
N41  IO_N41
N42  GND  pwr
P1  MGTRXP1_116  pas
P2  MGTTXN1_116  pas
P3  MGTAVCCPLL_116  pwr
P4  GND  pwr
P5  IO_P5
P6  IO_P6
P7  IO_P7
P8  IO_P8
P9  VCCO20  pwr
P10  IO_P10
P11  IO_P11
P12  IO_P12
P13  IO_P13
P14  GND  pwr
P15  HSWAP_EN_P15  in
P16  GND  pwr
P17  IO_P17
P18  IO_P18
P19  GND  pwr
P20  IO_P20
P21  VCCINT  pwr
P22  GND  pwr
P23  VCCINT  pwr
P24  GND  pwr
P25  IO_P25
P26  IO_P26
P27  IO_P27
P28  IO_P28
P29  GND  pwr
P30  VBATT_P30  pas
P31  IO_P31
P32  IO_P32
P33  IO_P33
P34  GND  pwr
P35  IO_P35
P36  IO_P36
P37  IO_P37
P38  IO_P38
P39  VCCO15  pwr
P40  IO_P40
P41  IO_P41
P42  IO_P42
R2  MGTTXP1_116  pas
R3  MGTAVTTTX_1162  pas
R4  IO_R4
R5  IO_R5
R6  VCCO20  pwr
R7  IO_R7
R8  IO_R8
R9  IO_R9
R10  IO_R10
R11  GND  pwr
R12  VCCAUX  pwr
R13  GND  pwr
R14  DONE_R14
R15  D_IN_R15  in
R16  VCCINT  pwr
R17  GND  pwr
R18  VCCINT  pwr
R19  GND  pwr
R20  VCCINT  pwr
R21  GND  pwr
R22  VCCINT  pwr
R23  GND  pwr
R24  VCCINT  pwr
R25  GND  pwr
R26  VCCINT  pwr
R27  GND  pwr
R28  VCCINT  pwr
R29  PROG_B  in
R30  RDWR_B_R30  in
R31  GND  pwr
R32  IO_R32
R33  IO_R33
R34  IO_R34
R35  IO_R35
R36  VCCO15  pwr
R37  IO_R37
R38  IO_R38
R39  IO_R39
R40  IO_R40
R41  GND  pwr
R42  IO_R42
T2  MGTTXP0_112  pas
T3  MGTAVTTTX_1121  pas
T4  IO_T4
T5  IO_T5
T6  IO_T6
T7  IO_T7
T8  GND  pwr
T9  IO_T9
T10  IO_T10
T11  IO_T11
T12  GND  pwr
T13  VCCAUX  pwr
T14  INIT_B_T14
T15  VCCINT  pwr
T16  GND  pwr
T17  VCCINT  pwr
T18  GND  pwr
T19  VCCINT  pwr
T20  GND  pwr
T21  VCCINT  pwr
T22  GND  pwr
T23  VCCINT  pwr
T24  GND  pwr
T25  VCCINT  pwr
T26  GND  pwr
T27  VCCINT  pwr
T28  GND  pwr
T29  VCCAUX  pwr
T30  CS_B_T30  in
T31  IO_T31
T32  IO_T32
T33  GND  pwr
T34  IO_T34
T35  IO_T35
T36  IO_T36
T37  IO_T37
T38  GND  pwr
T39  IO_T39
T40  IO_T40
T41  IO_T41
T42  IO_T42
U1  MGTRXP0_112  pas
U2  MGTTXN0_112  pas
U3  MGTAVTTRX_112  pas
U4  GND  pwr
U5  GND  pwr
U6  IO_U6
U7  IO_U7
U8  IO_U8
U9  IO_U9
U10  VCCO12  pwr
U11  IO_U11
U12  VCCAUX  pwr
U13  GND  pwr
U14  VCCINT  pwr
U15  GND  pwr
U16  VCCINT  pwr
U17  GND  pwr
U18  VCCINT  pwr
U19  GND  pwr
U20  VCCINT  pwr
U21  GND  pwr
U22  VCCINT  pwr
U23  GND  pwr
U24  VCCINT  pwr
U25  GND  pwr
U26  VCCINT  pwr
U27  GND  pwr
U28  VCCINT  pwr
U29  GND  pwr
U30  VCCAUX  pwr
U31  IO_U31
U32  IO_U32
U33  IO_U33
U34  IO_U34
U35  GND  pwr
U36  IO_U36
U37  IO_U37
U38  IO_U38
U39  IO_U39
U40  VCCO15  pwr
U41  IO_U41
U42  IO_U42
V1  MGTRXN0_112  pas
V2  GND  pwr
V3  MGTREFCLKN_112  pas
V4  MGTREFCLKP_112  pas
V5  IO_V5
V6  IO_V6
V7  VCCO12  pwr
V8  IO_V8
V9  IO_V9
V10  IO_V10
V11  IO_V11
V12  GND  pwr
V13  VCCINT  pwr
V14  GND  pwr
V15  VCCINT  pwr
V16  GND  pwr
V17  VCCINT  pwr
V18  GND  pwr
V19  VCCINT  pwr
V20  GND  pwr
V21  VCCINT  pwr
V22  GND  pwr
V23  VCCINT  pwr
V24  GND  pwr
V25  VCCINT  pwr
V26  GND  pwr
V27  VCCINT  pwr
V28  GND  pwr
V29  VCCINT  pwr
V30  GND  pwr
V31  VFS_V31  pas
V32  GND  pwr
V33  IO_V33
V34  IO_V34
V35  IO_V35
V36  IO_V36
V37  VCCO11  pwr
V38  IO_V38
V39  IO_V39
V40  IO_V40
V41  IO_V41
V42  GND  pwr
W1  MGTRXN1_112  pas
W2  GND  pwr
W3  MGTAVCC_112  pwr
W4  MGTAVCC_112  pwr
W5  IO_W5
W6  IO_W6
W7  IO_W7
W8  IO_W8
W9  GND  pwr
W10  IO_W10
W11  IO_W11
W12  VCCAUX  pwr
W13  GND  pwr
W14  VCCINT  pwr
W15  GND  pwr
W16  VCCINT  pwr
W17  GND  pwr
W18  VCCINT  pwr
W19  GND  pwr
W20  VCCINT  pwr
W21  GND  pwr
W22  VCCINT  pwr
W23  GND  pwr
W24  VCCINT  pwr
W25  GND  pwr
W26  VCCINT  pwr
W27  GND  pwr
W28  VCCINT  pwr
W29  GND  pwr
W30  VCCAUX  pwr
W31  GND  pwr
W32  IO_W32
W33  IO_W33
W34  GND  pwr
W35  IO_W35
W36  IO_W36
W37  IO_W37
W38  IO_W38
W39  GND  pwr
W40  IO_W40
W41  IO_W41
W42  IO_W42
Y1  MGTRXP1_112  pas
Y2  MGTTXN1_112  pas
Y3  MGTAVCCPLL_112  pwr
Y4  GND  pwr
Y5  NOCONNECT149  pas
Y6  GND  pwr
Y7  IO_Y7
Y8  IO_Y8
Y9  IO_Y9
Y10  IO_Y10
Y11  GND  pwr
Y12  GND  pwr
Y13  VCCINT  pwr
Y14  GND  pwr
Y15  VCCINT  pwr
Y16  GND  pwr
Y17  VCCINT  pwr
Y18  GND  pwr
Y19  VCCINT  pwr
Y20  GND  pwr
Y21  AVSS_Y21  pwr
Y22  AVDD_Y22  pwr
Y23  VCCINT  pwr
Y24  GND  pwr
Y25  VCCINT  pwr
Y26  GND  pwr
Y27  VCCINT  pwr
Y28  GND  pwr
Y29  VCCINT  pwr
Y30  GND  pwr
Y31  VCCAUX  pwr
Y32  IO_Y32
Y33  IO_Y33
Y34  IO_Y34
Y35  IO_Y35
Y36  GND  pwr
Y37  IO_Y37
Y38  IO_Y38
Y39  IO_Y39
Y40  IO_Y40
Y41  VCCO11  pwr
Y42  IO_Y42

## Footprint FF1738 (pad centres in mm)
xc5vlx110t_ff1738 edit this description Auto generated by make-symbol-device-package-bsdl.ulp Rev. 19 Source: xc5vlx110t_ff1738.bsd http://www.xilinx.com/support/documentation/package_specs/ff1738.pdf
smd 0.6 x 0.6: A2 -19.5,20.5; A3 -18.5,20.5; A4 -17.5,20.5; A5 -16.5,20.5; A8 -13.5,20.5; A9 -12.5,20.5; A10 -11.5,20.5; A11 -10.5,20.5; A14 -7.5,20.5; A15 -6.5,20.5; A16 -5.5,20.5; A17 -4.5,20.5; A19 -2.5,20.5; A20 -1.5,20.5; A21 -0.5,20.5; A22 0.5,20.5; A23 1.5,20.5; A24 2.5,20.5; A25 3.5,20.5; A26 4.5,20.5; A27 5.5,20.5; A28 6.5,20.5; A29 7.5,20.5; A30 8.5,20.5; A31 9.5,20.5; A32 10.5,20.5; A33 11.5,20.5; A34 12.5,20.5; A35 13.5,20.5; A36 14.5,20.5; A37 15.5,20.5; A38 16.5,20.5; A39 17.5,20.5; A40 18.5,20.5; A41 19.5,20.5; AA2 -19.5,0.5; AA3 -18.5,0.5; AA4 -17.5,0.5; AA5 -16.5,0.5; AA6 -15.5,0.5; AA7 -14.5,0.5; AA8 -13.5,0.5; AA9 -12.5,0.5; AA10 -11.5,0.5; AA11 -10.5,0.5; AA12 -9.5,0.5; AA13 -8.5,0.5; AA14 -7.5,0.5; AA15 -6.5,0.5; AA16 -5.5,0.5; AA17 -4.5,0.5; AA18 -3.5,0.5; AA19 -2.5,0.5; AA20 -1.5,0.5; AA21 -0.5,0.5; AA22 0.5,0.5; AA23 1.5,0.5; AA24 2.5,0.5; AA25 3.5,0.5; AA26 4.5,0.5; AA27 5.5,0.5; AA28 6.5,0.5; AA29 7.5,0.5; AA30 8.5,0.5; AA31 9.5,0.5; AA32 10.5,0.5; AA33 11.5,0.5; AA34 12.5,0.5; AA35 13.5,0.5; AA36 14.5,0.5; AA37 15.5,0.5; AA38 16.5,0.5; AA39 17.5,0.5; AA40 18.5,0.5; AA41 19.5,0.5; AA42 20.5,0.5; AB2 -19.5,-0.5; AB3 -18.5,-0.5; AB4 -17.5,-0.5; AB5 -16.5,-0.5; AB6 -15.5,-0.5; AB7 -14.5,-0.5; AB8 -13.5,-0.5; AB9 -12.5,-0.5; AB10 -11.5,-0.5; AB11 -10.5,-0.5; AB12 -9.5,-0.5; AB13 -8.5,-0.5; AB14 -7.5,-0.5; AB15 -6.5,-0.5; AB16 -5.5,-0.5; AB17 -4.5,-0.5; AB18 -3.5,-0.5; AB19 -2.5,-0.5; AB20 -1.5,-0.5; AB21 -0.5,-0.5; AB22 0.5,-0.5; AB23 1.5,-0.5; AB24 2.5,-0.5; AB25 3.5,-0.5; AB26 4.5,-0.5; AB27 5.5,-0.5; AB28 6.5,-0.5; AB29 7.5,-0.5; AB30 8.5,-0.5; AB31 9.5,-0.5; AB32 10.5,-0.5; AB33 11.5,-0.5; AB34 12.5,-0.5; AB35 13.5,-0.5; AB36 14.5,-0.5; AB37 15.5,-0.5; AB38 16.5,-0.5; AB39 17.5,-0.5; AB40 18.5,-0.5; AB41 19.5,-0.5; AB42 20.5,-0.5; AC1 -20.5,-1.5; AC2 -19.5,-1.5; AC3 -18.5,-1.5; AC4 -17.5,-1.5; AC5 -16.5,-1.5; AC6 -15.5,-1.5; AC7 -14.5,-1.5; AC8 -13.5,-1.5; AC9 -12.5,-1.5; AC10 -11.5,-1.5; AC11 -10.5,-1.5; AC12 -9.5,-1.5; AC13 -8.5,-1.5; AC14 -7.5,-1.5; AC15 -6.5,-1.5; AC16 -5.5,-1.5; AC17 -4.5,-1.5; AC18 -3.5,-1.5; AC19 -2.5,-1.5; AC20 -1.5,-1.5; AC21 -0.5,-1.5; AC22 0.5,-1.5; AC23 1.5,-1.5; AC24 2.5,-1.5; AC25 3.5,-1.5; AC26 4.5,-1.5; AC27 5.5,-1.5; AC28 6.5,-1.5; AC29 7.5,-1.5; AC30 8.5,-1.5; AC31 9.5,-1.5; AC32 10.5,-1.5; AC33 11.5,-1.5; AC34 12.5,-1.5; AC35 13.5,-1.5; AC36 14.5,-1.5; AC37 15.5,-1.5; AC38 16.5,-1.5; AC39 17.5,-1.5; AC40 18.5,-1.5; AC41 19.5,-1.5; AC42 20.5,-1.5; AD1 -20.5,-2.5; AD2 -19.5,-2.5; AD3 -18.5,-2.5; AD4 -17.5,-2.5; AD5 -16.5,-2.5; AD6 -15.5,-2.5; AD7 -14.5,-2.5; AD8 -13.5,-2.5; AD9 -12.5,-2.5; AD10 -11.5,-2.5; AD11 -10.5,-2.5; AD12 -9.5,-2.5; AD13 -8.5,-2.5; AD14 -7.5,-2.5; AD15 -6.5,-2.5; AD16 -5.5,-2.5; AD17 -4.5,-2.5; AD18 -3.5,-2.5; AD19 -2.5,-2.5; AD20 -1.5,-2.5; AD21 -0.5,-2.5; AD22 0.5,-2.5; AD23 1.5,-2.5; AD24 2.5,-2.5; AD25 3.5,-2.5; AD26 4.5,-2.5; AD27 5.5,-2.5; AD28 6.5,-2.5; AD29 7.5,-2.5; AD30 8.5,-2.5; AD31 9.5,-2.5; AD32 10.5,-2.5; AD33 11.5,-2.5; AD34 12.5,-2.5; AD35 13.5,-2.5; AD36 14.5,-2.5; AD37 15.5,-2.5; AD38 16.5,-2.5; AD39 17.5,-2.5; AD40 18.5,-2.5; AD41 19.5,-2.5; AD42 20.5,-2.5; AE1 -20.5,-3.5; AE2 -19.5,-3.5; AE3 -18.5,-3.5; AE4 -17.5,-3.5; AE5 -16.5,-3.5; AE6 -15.5,-3.5; AE7 -14.5,-3.5; AE8 -13.5,-3.5; AE9 -12.5,-3.5; AE10 -11.5,-3.5; AE11 -10.5,-3.5; AE12 -9.5,-3.5; AE13 -8.5,-3.5; AE14 -7.5,-3.5; AE15 -6.5,-3.5; AE16 -5.5,-3.5; AE17 -4.5,-3.5; AE18 -3.5,-3.5; AE19 -2.5,-3.5; AE20 -1.5,-3.5; AE21 -0.5,-3.5; AE22 0.5,-3.5; AE23 1.5,-3.5; AE24 2.5,-3.5; AE25 3.5,-3.5; AE26 4.5,-3.5; AE27 5.5,-3.5; AE28 6.5,-3.5; AE29 7.5,-3.5; AE30 8.5,-3.5; AE31 9.5,-3.5; AE32 10.5,-3.5; AE33 11.5,-3.5; AE34 12.5,-3.5; AE35 13.5,-3.5; AE36 14.5,-3.5; AE37 15.5,-3.5; AE38 16.5,-3.5; AE39 17.5,-3.5; AE40 18.5,-3.5; AE41 19.5,-3.5; AE42 20.5,-3.5; AF1 -20.5,-4.5; AF2 -19.5,-4.5; AF3 -18.5,-4.5; AF4 -17.5,-4.5; AF5 -16.5,-4.5; AF6 -15.5,-4.5; AF7 -14.5,-4.5; AF8 -13.5,-4.5; AF9 -12.5,-4.5; AF10 -11.5,-4.5; AF11 -10.5,-4.5; AF12 -9.5,-4.5; AF13 -8.5,-4.5; AF14 -7.5,-4.5; AF15 -6.5,-4.5; AF16 -5.5,-4.5; AF17 -4.5,-4.5; AF18 -3.5,-4.5; AF19 -2.5,-4.5; AF20 -1.5,-4.5; AF21 -0.5,-4.5; AF22 0.5,-4.5; AF23 1.5,-4.5; AF24 2.5,-4.5; AF25 3.5,-4.5; AF26 4.5,-4.5; AF27 5.5,-4.5; AF28 6.5,-4.5; AF29 7.5,-4.5; AF30 8.5,-4.5; AF31 9.5,-4.5; AF32 10.5,-4.5; AF33 11.5,-4.5; AF34 12.5,-4.5; AF35 13.5,-4.5; AF36 14.5,-4.5; AF37 15.5,-4.5; AF38 16.5,-4.5; AF39 17.5,-4.5; AF40 18.5,-4.5; AF41 19.5,-4.5; AF42 20.5,-4.5; AG2 -19.5,-5.5; AG3 -18.5,-5.5; AG4 -17.5,-5.5; AG5 -16.5,-5.5; AG6 -15.5,-5.5; AG7 -14.5,-5.5; AG8 -13.5,-5.5; AG9 -12.5,-5.5; AG10 -11.5,-5.5; AG11 -10.5,-5.5; AG12 -9.5,-5.5; AG13 -8.5,-5.5; AG14 -7.5,-5.5; AG15 -6.5,-5.5; AG16 -5.5,-5.5; AG17 -4.5,-5.5; AG18 -3.5,-5.5; AG19 -2.5,-5.5; AG20 -1.5,-5.5; AG21 -0.5,-5.5; AG22 0.5,-5.5; AG23 1.5,-5.5; AG24 2.5,-5.5; AG25 3.5,-5.5; AG26 4.5,-5.5; AG27 5.5,-5.5; AG28 6.5,-5.5; AG29 7.5,-5.5; AG30 8.5,-5.5; AG31 9.5,-5.5; AG32 10.5,-5.5; AG33 11.5,-5.5; AG34 12.5,-5.5; AG35 13.5,-5.5; AG36 14.5,-5.5; AG37 15.5,-5.5; AG38 16.5,-5.5; AG39 17.5,-5.5; AG40 18.5,-5.5; AG41 19.5,-5.5; AG42 20.5,-5.5; AH2 -19.5,-6.5; AH3 -18.5,-6.5; AH4 -17.5,-6.5; AH5 -16.5,-6.5; AH6 -15.5,-6.5; AH7 -14.5,-6.5; AH8 -13.5,-6.5; AH9 -12.5,-6.5; AH10 -11.5,-6.5; AH11 -10.5,-6.5; AH12 -9.5,-6.5; AH13 -8.5,-6.5; AH14 -7.5,-6.5; AH15 -6.5,-6.5; AH16 -5.5,-6.5; AH17 -4.5,-6.5; AH18 -3.5,-6.5; AH19 -2.5,-6.5; AH20 -1.5,-6.5; AH21 -0.5,-6.5; AH22 0.5,-6.5; AH23 1.5,-6.5; AH24 2.5,-6.5; AH25 3.5,-6.5; AH26 4.5,-6.5; AH27 5.5,-6.5; AH28 6.5,-6.5; AH29 7.5,-6.5; AH30 8.5,-6.5; AH31 9.5,-6.5; AH32 10.5,-6.5; AH33 11.5,-6.5; AH34 12.5,-6.5; AH35 13.5,-6.5; AH36 14.5,-6.5; AH37 15.5,-6.5; AH38 16.5,-6.5; AH39 17.5,-6.5; AH40 18.5,-6.5; AH41 19.5,-6.5; AH42 20.5,-6.5; AJ1 -20.5,-7.5; AJ2 -19.5,-7.5; AJ3 -18.5,-7.5; AJ4 -17.5,-7.5; AJ5 -16.5,-7.5; AJ6 -15.5,-7.5; AJ7 -14.5,-7.5; AJ8 -13.5,-7.5; AJ9 -12.5,-7.5; AJ10 -11.5,-7.5; AJ11 -10.5,-7.5; AJ12 -9.5,-7.5; AJ13 -8.5,-7.5; AJ14 -7.5,-7.5; AJ15 -6.5,-7.5; AJ16 -5.5,-7.5; AJ17 -4.5,-7.5; AJ18 -3.5,-7.5; AJ19 -2.5,-7.5; AJ20 -1.5,-7.5; AJ21 -0.5,-7.5; AJ22 0.5,-7.5; AJ23 1.5,-7.5; AJ24 2.5,-7.5; AJ25 3.5,-7.5; AJ26 4.5,-7.5; AJ27 5.5,-7.5; AJ28 6.5,-7.5; AJ29 7.5,-7.5; AJ30 8.5,-7.5; AJ31 9.5,-7.5; AJ32 10.5,-7.5; AJ33 11.5,-7.5; AJ34 12.5,-7.5; AJ35 13.5,-7.5; AJ36 14.5,-7.5; AJ37 15.5,-7.5; AJ38 16.5,-7.5; AJ39 17.5,-7.5; AJ40 18.5,-7.5; AJ41 19.5,-7.5; AJ42 20.5,-7.5; AK1 -20.5,-8.5; AK2 -19.5,-8.5; AK3 -18.5,-8.5; AK4 -17.5,-8.5; AK5 -16.5,-8.5; AK6 -15.5,-8.5; AK7 -14.5,-8.5; AK8 -13.5,-8.5; AK9 -12.5,-8.5; AK10 -11.5,-8.5; AK11 -10.5,-8.5; AK12 -9.5,-8.5; AK13 -8.5,-8.5; AK14 -7.5,-8.5; AK15 -6.5,-8.5; AK16 -5.5,-8.5; AK17 -4.5,-8.5; AK18 -3.5,-8.5; AK19 -2.5,-8.5; AK20 -1.5,-8.5; AK21 -0.5,-8.5; AK22 0.5,-8.5; AK23 1.5,-8.5; AK24 2.5,-8.5; AK25 3.5,-8.5; AK26 4.5,-8.5; AK27 5.5,-8.5; AK28 6.5,-8.5; AK29 7.5,-8.5; AK30 8.5,-8.5; AK31 9.5,-8.5; AK32 10.5,-8.5; AK33 11.5,-8.5; AK34 12.5,-8.5; AK35 13.5,-8.5; AK36 14.5,-8.5; AK37 15.5,-8.5; AK38 16.5,-8.5; AK39 17.5,-8.5; AK40 18.5,-8.5; AK41 19.5,-8.5; AK42 20.5,-8.5; AL1 -20.5,-9.5; AL2 -19.5,-9.5; AL3 -18.5,-9.5; AL4 -17.5,-9.5; AL5 -16.5,-9.5; AL6 -15.5,-9.5; AL7 -14.5,-9.5; AL8 -13.5,-9.5; AL9 -12.5,-9.5; AL10 -11.5,-9.5; AL11 -10.5,-9.5; AL12 -9.5,-9.5; AL13 -8.5,-9.5; AL14 -7.5,-9.5; AL15 -6.5,-9.5; AL16 -5.5,-9.5; AL17 -4.5,-9.5; AL18 -3.5,-9.5; AL19 -2.5,-9.5; AL20 -1.5,-9.5; AL21 -0.5,-9.5; AL22 0.5,-9.5; AL23 1.5,-9.5; AL24 2.5,-9.5; AL25 3.5,-9.5; AL26 4.5,-9.5; AL27 5.5,-9.5; AL28 6.5,-9.5; AL29 7.5,-9.5; AL30 8.5,-9.5; AL31 9.5,-9.5; AL32 10.5,-9.5; AL33 11.5,-9.5; AL34 12.5,-9.5; AL35 13.5,-9.5; AL36 14.5,-9.5; AL37 15.5,-9.5; AL38 16.5,-9.5; AL39 17.5,-9.5; AL40 18.5,-9.5; AL41 19.5,-9.5; AL42 20.5,-9.5; AM1 -20.5,-10.5; AM2 -19.5,-10.5; AM3 -18.5,-10.5; AM4 -17.5,-10.5; AM5 -16.5,-10.5; AM6 -15.5,-10.5; AM7 -14.5,-10.5; AM8 -13.5,-10.5; AM9 -12.5,-10.5; AM10 -11.5,-10.5; AM11 -10.5,-10.5; AM12 -9.5,-10.5; AM13 -8.5,-10.5; AM14 -7.5,-10.5; AM15 -6.5,-10.5; AM16 -5.5,-10.5; AM17 -4.5,-10.5; AM18 -3.5,-10.5; AM19 -2.5,-10.5; AM20 -1.5,-10.5; AM21 -0.5,-10.5; AM22 0.5,-10.5; AM23 1.5,-10.5; AM24 2.5,-10.5; AM25 3.5,-10.5; AM26 4.5,-10.5; AM27 5.5,-10.5; AM28 6.5,-10.5; AM29 7.5,-10.5; AM30 8.5,-10.5; AM31 9.5,-10.5; AM32 10.5,-10.5; AM33 11.5,-10.5; AM34 12.5,-10.5; AM35 13.5,-10.5; AM36 14.5,-10.5; AM37 15.5,-10.5; AM38 16.5,-10.5; AM39 17.5,-10.5; AM40 18.5,-10.5; AM41 19.5,-10.5; AM42 20.5,-10.5; AN2 -19.5,-11.5; AN3 -18.5,-11.5; AN4 -17.5,-11.5; AN5 -16.5,-11.5; AN6 -15.5,-11.5; AN7 -14.5,-11.5; AN8 -13.5,-11.5; AN9 -12.5,-11.5; AN10 -11.5,-11.5; AN11 -10.5,-11.5; AN12 -9.5,-11.5; AN13 -8.5,-11.5; AN14 -7.5,-11.5; AN15 -6.5,-11.5; AN16 -5.5,-11.5; AN17 -4.5,-11.5; AN18 -3.5,-11.5; AN19 -2.5,-11.5; AN20 -1.5,-11.5; AN21 -0.5,-11.5; AN22 0.5,-11.5; AN23 1.5,-11.5; AN24 2.5,-11.5; AN25 3.5,-11.5; AN26 4.5,-11.5; AN27 5.5,-11.5; AN28 6.5,-11.5; AN29 7.5,-11.5; AN30 8.5,-11.5; AN31 9.5,-11.5; AN32 10.5,-11.5; AN33 11.5,-11.5; AN34 12.5,-11.5; AN35 13.5,-11.5; AN36 14.5,-11.5; AN37 15.5,-11.5; AN38 16.5,-11.5; AN39 17.5,-11.5; AN40 18.5,-11.5; AN41 19.5,-11.5; AN42 20.5,-11.5; AP2 -19.5,-12.5; AP3 -18.5,-12.5; AP4 -17.5,-12.5; AP5 -16.5,-12.5; AP6 -15.5,-12.5; AP7 -14.5,-12.5; AP8 -13.5,-12.5; AP9 -12.5,-12.5; AP10 -11.5,-12.5; AP11 -10.5,-12.5; AP12 -9.5,-12.5; AP13 -8.5,-12.5; AP14 -7.5,-12.5; AP15 -6.5,-12.5; AP16 -5.5,-12.5; AP17 -4.5,-12.5; AP18 -3.5,-12.5; AP19 -2.5,-12.5; AP20 -1.5,-12.5; AP21 -0.5,-12.5; AP22 0.5,-12.5; AP23 1.5,-12.5; AP24 2.5,-12.5; AP25 3.5,-12.5; AP26 4.5,-12.5; AP27 5.5,-12.5; AP28 6.5,-12.5; AP29 7.5,-12.5; AP30 8.5,-12.5; AP31 9.5,-12.5; AP32 10.5,-12.5; AP33 11.5,-12.5; AP34 12.5,-12.5; AP35 13.5,-12.5; AP36 14.5,-12.5; AP37 15.5,-12.5; AP38 16.5,-12.5; AP39 17.5,-12.5; AP40 18.5,-12.5; AP41 19.5,-12.5; AP42 20.5,-12.5; AR1 -20.5,-13.5; AR2 -19.5,-13.5; AR3 -18.5,-13.5; AR4 -17.5,-13.5; AR5 -16.5,-13.5; AR6 -15.5,-13.5; AR7 -14.5,-13.5; AR8 -13.5,-13.5; AR9 -12.5,-13.5; AR10 -11.5,-13.5; AR11 -10.5,-13.5; AR12 -9.5,-13.5; AR13 -8.5,-13.5; AR14 -7.5,-13.5; AR15 -6.5,-13.5; AR16 -5.5,-13.5; AR17 -4.5,-13.5; AR18 -3.5,-13.5; AR19 -2.5,-13.5; AR20 -1.5,-13.5; AR21 -0.5,-13.5; AR22 0.5,-13.5; AR23 1.5,-13.5; AR24 2.5,-13.5; AR25 3.5,-13.5; AR26 4.5,-13.5; AR27 5.5,-13.5; AR28 6.5,-13.5; AR29 7.5,-13.5; AR30 8.5,-13.5; AR31 9.5,-13.5; AR32 10.5,-13.5; AR33 11.5,-13.5; AR34 12.5,-13.5; AR35 13.5,-13.5; AR36 14.5,-13.5; AR37 15.5,-13.5; AR38 16.5,-13.5; AR39 17.5,-13.5; AR40 18.5,-13.5; AR41 19.5,-13.5; AR42 20.5,-13.5; AT1 -20.5,-14.5; AT2 -19.5,-14.5; AT3 -18.5,-14.5; AT4 -17.5,-14.5; AT5 -16.5,-14.5; AT6 -15.5,-14.5; AT7 -14.5,-14.5; AT8 -13.5,-14.5; AT9 -12.5,-14.5; AT10 -11.5,-14.5; AT11 -10.5,-14.5; AT12 -9.5,-14.5; AT13 -8.5,-14.5; AT14 -7.5,-14.5; AT15 -6.5,-14.5; AT16 -5.5,-14.5; AT17 -4.5,-14.5; AT18 -3.5,-14.5; AT19 -2.5,-14.5; AT20 -1.5,-14.5; AT21 -0.5,-14.5; AT22 0.5,-14.5; AT23 1.5,-14.5; AT24 2.5,-14.5; AT25 3.5,-14.5; AT26 4.5,-14.5; AT27 5.5,-14.5; AT28 6.5,-14.5; AT29 7.5,-14.5; AT30 8.5,-14.5; AT31 9.5,-14.5; AT32 10.5,-14.5; AT33 11.5,-14.5; AT34 12.5,-14.5; AT35 13.5,-14.5; AT36 14.5,-14.5; AT37 15.5,-14.5; AT38 16.5,-14.5; AT39 17.5,-14.5; AT40 18.5,-14.5; AT41 19.5,-14.5; AT42 20.5,-14.5; AU1 -20.5,-15.5; AU2 -19.5,-15.5; AU3 -18.5,-15.5; AU4 -17.5,-15.5; AU5 -16.5,-15.5; AU6 -15.5,-15.5; AU7 -14.5,-15.5; AU8 -13.5,-15.5; AU9 -12.5,-15.5; AU10 -11.5,-15.5; AU11 -10.5,-15.5; AU12 -9.5,-15.5; AU13 -8.5,-15.5; AU14 -7.5,-15.5; AU15 -6.5,-15.5; AU16 -5.5,-15.5; AU17 -4.5,-15.5; AU18 -3.5,-15.5; AU19 -2.5,-15.5; AU20 -1.5,-15.5; AU21 -0.5,-15.5; AU22 0.5,-15.5; AU23 1.5,-15.5; AU24 2.5,-15.5; AU25 3.5,-15.5; AU26 4.5,-15.5; AU27 5.5,-15.5; AU28 6.5,-15.5; AU29 7.5,-15.5; AU30 8.5,-15.5; AU31 9.5,-15.5; AU32 10.5,-15.5; AU33 11.5,-15.5; AU34 12.5,-15.5; AU35 13.5,-15.5; AU36 14.5,-15.5; AU37 15.5,-15.5; AU38 16.5,-15.5; AU39 17.5,-15.5; AU40 18.5,-15.5; AU41 19.5,-15.5; AU42 20.5,-15.5; AV1 -20.5,-16.5; AV2 -19.5,-16.5; AV3 -18.5,-16.5; AV4 -17.5,-16.5; AV5 -16.5,-16.5; AV6 -15.5,-16.5; AV7 -14.5,-16.5; AV8 -13.5,-16.5; AV9 -12.5,-16.5; AV10 -11.5,-16.5; AV11 -10.5,-16.5; AV12 -9.5,-16.5; AV13 -8.5,-16.5; AV14 -7.5,-16.5; AV15 -6.5,-16.5; AV16 -5.5,-16.5; AV17 -4.5,-16.5; AV18 -3.5,-16.5; AV19 -2.5,-16.5; AV20 -1.5,-16.5; AV21 -0.5,-16.5; AV22 0.5,-16.5; AV23 1.5,-16.5; AV24 2.5,-16.5; AV25 3.5,-16.5; AV26 4.5,-16.5; AV27 5.5,-16.5; AV28 6.5,-16.5; AV29 7.5,-16.5; AV30 8.5,-16.5; AV31 9.5,-16.5; AV32 10.5,-16.5; AV33 11.5,-16.5; AV34 12.5,-16.5; AV35 13.5,-16.5; AV36 14.5,-16.5; AV37 15.5,-16.5; AV38 16.5,-16.5; AV39 17.5,-16.5; AV40 18.5,-16.5; AV41 19.5,-16.5; AV42 20.5,-16.5; AW2 -19.5,-17.5; AW3 -18.5,-17.5; AW4 -17.5,-17.5; AW5 -16.5,-17.5; AW6 -15.5,-17.5; AW7 -14.5,-17.5; AW8 -13.5,-17.5; AW9 -12.5,-17.5; AW10 -11.5,-17.5; AW11 -10.5,-17.5; AW12 -9.5,-17.5; AW13 -8.5,-17.5; AW14 -7.5,-17.5; AW15 -6.5,-17.5; AW16 -5.5,-17.5; AW17 -4.5,-17.5; AW18 -3.5,-17.5; AW19 -2.5,-17.5; AW20 -1.5,-17.5; AW21 -0.5,-17.5; AW22 0.5,-17.5; AW23 1.5,-17.5; AW24 2.5,-17.5; AW25 3.5,-17.5; AW26 4.5,-17.5; AW27 5.5,-17.5; AW28 6.5,-17.5; AW29 7.5,-17.5; AW30 8.5,-17.5; AW31 9.5,-17.5; AW32 10.5,-17.5; AW33 11.5,-17.5; AW34 12.5,-17.5; AW35 13.5,-17.5; AW36 14.5,-17.5; AW37 15.5,-17.5; AW38 16.5,-17.5; AW39 17.5,-17.5; AW40 18.5,-17.5; AW41 19.5,-17.5; AW42 20.5,-17.5; AY1 -20.5,-18.5; AY2 -19.5,-18.5; AY3 -18.5,-18.5; AY4 -17.5,-18.5; AY5 -16.5,-18.5; AY6 -15.5,-18.5; AY7 -14.5,-18.5; AY8 -13.5,-18.5; AY9 -12.5,-18.5; AY10 -11.5,-18.5; AY11 -10.5,-18.5; AY12 -9.5,-18.5; AY13 -8.5,-18.5; AY14 -7.5,-18.5; AY15 -6.5,-18.5; AY16 -5.5,-18.5; AY17 -4.5,-18.5; AY18 -3.5,-18.5; AY19 -2.5,-18.5; AY20 -1.5,-18.5; AY21 -0.5,-18.5; AY22 0.5,-18.5; AY23 1.5,-18.5; AY24 2.5,-18.5; AY25 3.5,-18.5; AY26 4.5,-18.5; AY27 5.5,-18.5; AY28 6.5,-18.5; AY29 7.5,-18.5; AY30 8.5,-18.5; AY31 9.5,-18.5; AY32 10.5,-18.5; AY33 11.5,-18.5; AY34 12.5,-18.5; AY35 13.5,-18.5; AY36 14.5,-18.5; AY37 15.5,-18.5; AY38 16.5,-18.5; AY39 17.5,-18.5; AY40 18.5,-18.5; AY41 19.5,-18.5; AY42 20.5,-18.5; B1 -20.5,19.5; B2 -19.5,19.5; B3 -18.5,19.5; B4 -17.5,19.5; B5 -16.5,19.5; B6 -15.5,19.5; B7 -14.5,19.5; B8 -13.5,19.5; B9 -12.5,19.5; B10 -11.5,19.5; B11 -10.5,19.5; B12 -9.5,19.5; B13 -8.5,19.5; B14 -7.5,19.5; B15 -6.5,19.5; B16 -5.5,19.5; B17 -4.5,19.5; B18 -3.5,19.5; B19 -2.5,19.5; B20 -1.5,19.5; B21 -0.5,19.5; B22 0.5,19.5; B23 1.5,19.5; B24 2.5,19.5; B25 3.5,19.5; B26 4.5,19.5; B27 5.5,19.5; B28 6.5,19.5; B29 7.5,19.5; B30 8.5,19.5; B31 9.5,19.5; B32 10.5,19.5; B33 11.5,19.5; B34 12.5,19.5; B35 13.5,19.5; B36 14.5,19.5; B37 15.5,19.5; B38 16.5,19.5; B39 17.5,19.5; B40 18.5,19.5; B41 19.5,19.5; B42 20.5,19.5; BA1 -20.5,-19.5; BA2 -19.5,-19.5; BA3 -18.5,-19.5; BA4 -17.5,-19.5; BA5 -16.5,-19.5; BA6 -15.5,-19.5; BA7 -14.5,-19.5; BA8 -13.5,-19.5; BA9 -12.5,-19.5; BA10 -11.5,-19.5; BA11 -10.5,-19.5; BA12 -9.5,-19.5; BA13 -8.5,-19.5; BA14 -7.5,-19.5; BA15 -6.5,-19.5; BA16 -5.5,-19.5; BA17 -4.5,-19.5; BA18 -3.5,-19.5; BA19 -2.5,-19.5; BA20 -1.5,-19.5; BA21 -0.5,-19.5; BA22 0.5,-19.5; BA23 1.5,-19.5; BA24 2.5,-19.5; BA25 3.5,-19.5; BA26 4.5,-19.5; BA27 5.5,-19.5; BA28 6.5,-19.5; BA29 7.5,-19.5; BA30 8.5,-19.5; BA31 9.5,-19.5; BA32 10.5,-19.5; BA33 11.5,-19.5; BA34 12.5,-19.5; BA35 13.5,-19.5; BA36 14.5,-19.5; BA37 15.5,-19.5; BA38 16.5,-19.5; BA39 17.5,-19.5; BA40 18.5,-19.5; BA41 19.5,-19.5; BA42 20.5,-19.5; BB2 -19.5,-20.5; BB3 -18.5,-20.5; BB4 -17.5,-20.5; BB5 -16.5,-20.5; BB8 -13.5,-20.5; BB9 -12.5,-20.5; BB10 -11.5,-20.5; BB11 -10.5,-20.5; BB14 -7.5,-20.5; BB15 -6.5,-20.5; BB16 -5.5,-20.5; BB17 -4.5,-20.5; BB19 -2.5,-20.5; BB20 -1.5,-20.5; BB21 -0.5,-20.5; BB22 0.5,-20.5; BB23 1.5,-20.5; BB24 2.5,-20.5; BB25 3.5,-20.5; BB26 4.5,-20.5; BB27 5.5,-20.5; BB28 6.5,-20.5; BB29 7.5,-20.5; BB30 8.5,-20.5; BB31 9.5,-20.5; BB32 10.5,-20.5; BB33 11.5,-20.5; BB34 12.5,-20.5; BB35 13.5,-20.5; BB36 14.5,-20.5; BB37 15.5,-20.5; BB38 16.5,-20.5; BB39 17.5,-20.5; BB40 18.5,-20.5; BB41 19.5,-20.5; C1 -20.5,18.5; C2 -19.5,18.5; C3 -18.5,18.5; C4 -17.5,18.5; C5 -16.5,18.5; C6 -15.5,18.5; C7 -14.5,18.5; C8 -13.5,18.5; C9 -12.5,18.5; C10 -11.5,18.5; C11 -10.5,18.5; C12 -9.5,18.5; C13 -8.5,18.5; C14 -7.5,18.5; C15 -6.5,18.5; C16 -5.5,18.5; C17 -4.5,18.5; C18 -3.5,18.5; C19 -2.5,18.5; C20 -1.5,18.5; C21 -0.5,18.5; C22 0.5,18.5; C23 1.5,18.5; C24 2.5,18.5; C25 3.5,18.5; C26 4.5,18.5; C27 5.5,18.5; C28 6.5,18.5; C29 7.5,18.5; C30 8.5,18.5; C31 9.5,18.5; C32 10.5,18.5; C33 11.5,18.5; C34 12.5,18.5; C35 13.5,18.5; C36 14.5,18.5; C37 15.5,18.5; C38 16.5,18.5; C39 17.5,18.5; C40 18.5,18.5; C41 19.5,18.5; C42 20.5,18.5; D2 -19.5,17.5; D3 -18.5,17.5; D4 -17.5,17.5; D5 -16.5,17.5; D6 -15.5,17.5; D7 -14.5,17.5; D8 -13.5,17.5; D9 -12.5,17.5; D10 -11.5,17.5; D11 -10.5,17.5; D12 -9.5,17.5; D13 -8.5,17.5; D14 -7.5,17.5; D15 -6.5,17.5; D16 -5.5,17.5; D17 -4.5,17.5; D18 -3.5,17.5; D19 -2.5,17.5; D20 -1.5,17.5; D21 -0.5,17.5; D22 0.5,17.5; D23 1.5,17.5; D24 2.5,17.5; D25 3.5,17.5; D26 4.5,17.5; D27 5.5,17.5; D28 6.5,17.5; D29 7.5,17.5; D30 8.5,17.5; D31 9.5,17.5; D32 10.5,17.5; D33 11.5,17.5; D34 12.5,17.5; D35 13.5,17.5; D36 14.5,17.5; D37 15.5,17.5; D38 16.5,17.5; D39 17.5,17.5; D40 18.5,17.5; D41 19.5,17.5; D42 20.5,17.5; E1 -20.5,16.5; E2 -19.5,16.5; E3 -18.5,16.5; E4 -17.5,16.5; E5 -16.5,16.5; E6 -15.5,16.5; E7 -14.5,16.5; E8 -13.5,16.5; E9 -12.5,16.5; E10 -11.5,16.5; E11 -10.5,16.5; E12 -9.5,16.5; E13 -8.5,16.5; E14 -7.5,16.5; E15 -6.5,16.5; E16 -5.5,16.5; E17 -4.5,16.5; E18 -3.5,16.5; E19 -2.5,16.5; E20 -1.5,16.5; E21 -0.5,16.5; E22 0.5,16.5; E23 1.5,16.5; E24 2.5,16.5; E25 3.5,16.5; E26 4.5,16.5; E27 5.5,16.5; E28 6.5,16.5; E29 7.5,16.5; E30 8.5,16.5; E31 9.5,16.5; E32 10.5,16.5; E33 11.5,16.5; E34 12.5,16.5; E35 13.5,16.5; E36 14.5,16.5; E37 15.5,16.5; E38 16.5,16.5; E39 17.5,16.5; E40 18.5,16.5; E41 19.5,16.5; E42 20.5,16.5; F1 -20.5,15.5; F2 -19.5,15.5; F3 -18.5,15.5; F4 -17.5,15.5; F5 -16.5,15.5; F6 -15.5,15.5; F7 -14.5,15.5; F8 -13.5,15.5; F9 -12.5,15.5; F10 -11.5,15.5; F11 -10.5,15.5; F12 -9.5,15.5; F13 -8.5,15.5; F14 -7.5,15.5; F15 -6.5,15.5; F16 -5.5,15.5; F17 -4.5,15.5; F18 -3.5,15.5; F19 -2.5,15.5; F20 -1.5,15.5; F21 -0.5,15.5; F22 0.5,15.5; F23 1.5,15.5; F24 2.5,15.5; F25 3.5,15.5; F26 4.5,15.5; F27 5.5,15.5; F28 6.5,15.5; F29 7.5,15.5; F30 8.5,15.5; F31 9.5,15.5; F32 10.5,15.5; F33 11.5,15.5; F34 12.5,15.5; F35 13.5,15.5; F36 14.5,15.5; F37 15.5,15.5; F38 16.5,15.5; F39 17.5,15.5; F40 18.5,15.5; F41 19.5,15.5; F42 20.5,15.5; G1 -20.5,14.5; G2 -19.5,14.5; G3 -18.5,14.5; G4 -17.5,14.5; G5 -16.5,14.5; G6 -15.5,14.5; G7 -14.5,14.5; G8 -13.5,14.5; G9 -12.5,14.5; G10 -11.5,14.5; G11 -10.5,14.5; G12 -9.5,14.5; G13 -8.5,14.5; G14 -7.5,14.5; G15 -6.5,14.5; G16 -5.5,14.5; G17 -4.5,14.5; G18 -3.5,14.5; G19 -2.5,14.5; G20 -1.5,14.5; G21 -0.5,14.5; G22 0.5,14.5; G23 1.5,14.5; G24 2.5,14.5; G25 3.5,14.5; G26 4.5,14.5; G27 5.5,14.5; G28 6.5,14.5; G29 7.5,14.5; G30 8.5,14.5; G31 9.5,14.5; G32 10.5,14.5; G33 11.5,14.5; G34 12.5,14.5; G35 13.5,14.5; G36 14.5,14.5; G37 15.5,14.5; G38 16.5,14.5; G39 17.5,14.5; G40 18.5,14.5; G41 19.5,14.5; G42 20.5,14.5; H1 -20.5,13.5; H2 -19.5,13.5; H3 -18.5,13.5; H4 -17.5,13.5; H5 -16.5,13.5; H6 -15.5,13.5; H7 -14.5,13.5; H8 -13.5,13.5; H9 -12.5,13.5; H10 -11.5,13.5; H11 -10.5,13.5; H12 -9.5,13.5; H13 -8.5,13.5; H14 -7.5,13.5; H15 -6.5,13.5; H16 -5.5,13.5; H17 -4.5,13.5; H18 -3.5,13.5; H19 -2.5,13.5; H20 -1.5,13.5; H21 -0.5,13.5; H22 0.5,13.5; H23 1.5,13.5; H24 2.5,13.5; H25 3.5,13.5; H26 4.5,13.5; H27 5.5,13.5; H28 6.5,13.5; H29 7.5,13.5; H30 8.5,13.5; H31 9.5,13.5; H32 10.5,13.5; H33 11.5,13.5; H34 12.5,13.5; H35 13.5,13.5; H36 14.5,13.5; H37 15.5,13.5; H38 16.5,13.5; H39 17.5,13.5; H40 18.5,13.5; H41 19.5,13.5; H42 20.5,13.5; J2 -19.5,12.5; J3 -18.5,12.5; J4 -17.5,12.5; J5 -16.5,12.5; J6 -15.5,12.5; J7 -14.5,12.5; J8 -13.5,12.5; J9 -12.5,12.5; J10 -11.5,12.5; J11 -10.5,12.5; J12 -9.5,12.5; J13 -8.5,12.5; J14 -7.5,12.5; J15 -6.5,12.5; J16 -5.5,12.5; J17 -4.5,12.5; J18 -3.5,12.5; J19 -2.5,12.5; J20 -1.5,12.5; J21 -0.5,12.5; J22 0.5,12.5; J23 1.5,12.5; J24 2.5,12.5; J25 3.5,12.5; J26 4.5,12.5; J27 5.5,12.5; J28 6.5,12.5; J29 7.5,12.5; J30 8.5,12.5; J31 9.5,12.5; J32 10.5,12.5; J33 11.5,12.5; J34 12.5,12.5; J35 13.5,12.5; J36 14.5,12.5; J37 15.5,12.5; J38 16.5,12.5; J39 17.5,12.5; J40 18.5,12.5; J41 19.5,12.5; J42 20.5,12.5; K2 -19.5,11.5; K3 -18.5,11.5; K4 -17.5,11.5; K5 -16.5,11.5; K6 -15.5,11.5; K7 -14.5,11.5; K8 -13.5,11.5; K9 -12.5,11.5; K10 -11.5,11.5; K11 -10.5,11.5; K12 -9.5,11.5; K13 -8.5,11.5; K14 -7.5,11.5; K15 -6.5,11.5; K16 -5.5,11.5; K17 -4.5,11.5; K18 -3.5,11.5; K19 -2.5,11.5; K20 -1.5,11.5; K21 -0.5,11.5; K22 0.5,11.5; K23 1.5,11.5; K24 2.5,11.5; K25 3.5,11.5; K26 4.5,11.5; K27 5.5,11.5; K28 6.5,11.5; K29 7.5,11.5; K30 8.5,11.5; K31 9.5,11.5; K32 10.5,11.5; K33 11.5,11.5; K34 12.5,11.5; K35 13.5,11.5; K36 14.5,11.5; K37 15.5,11.5; K38 16.5,11.5; K39 17.5,11.5; K40 18.5,11.5; K41 19.5,11.5; K42 20.5,11.5; L1 -20.5,10.5; L2 -19.5,10.5; L3 -18.5,10.5; L4 -17.5,10.5; L5 -16.5,10.5; L6 -15.5,10.5; L7 -14.5,10.5; L8 -13.5,10.5; L9 -12.5,10.5; L10 -11.5,10.5; L11 -10.5,10.5; L12 -9.5,10.5; L13 -8.5,10.5; L14 -7.5,10.5; L15 -6.5,10.5; L16 -5.5,10.5; L17 -4.5,10.5; L18 -3.5,10.5; L19 -2.5,10.5; L20 -1.5,10.5; L21 -0.5,10.5; L22 0.5,10.5; L23 1.5,10.5; L24 2.5,10.5; L25 3.5,10.5; L26 4.5,10.5; L27 5.5,10.5; L28 6.5,10.5; L29 7.5,10.5; L30 8.5,10.5; L31 9.5,10.5; L32 10.5,10.5; L33 11.5,10.5; L34 12.5,10.5; L35 13.5,10.5; L36 14.5,10.5; L37 15.5,10.5; L38 16.5,10.5; L39 17.5,10.5; L40 18.5,10.5; L41 19.5,10.5; L42 20.5,10.5; M1 -20.5,9.5; M2 -19.5,9.5; M3 -18.5,9.5; M4 -17.5,9.5; M5 -16.5,9.5; M6 -15.5,9.5; M7 -14.5,9.5; M8 -13.5,9.5; M9 -12.5,9.5; M10 -11.5,9.5; M11 -10.5,9.5; M12 -9.5,9.5; M13 -8.5,9.5; M14 -7.5,9.5; M15 -6.5,9.5; M16 -5.5,9.5; M17 -4.5,9.5; M18 -3.5,9.5; M19 -2.5,9.5; M20 -1.5,9.5; M21 -0.5,9.5; M22 0.5,9.5; M23 1.5,9.5; M24 2.5,9.5; M25 3.5,9.5; M26 4.5,9.5; M27 5.5,9.5; M28 6.5,9.5; M29 7.5,9.5; M30 8.5,9.5; M31 9.5,9.5; M32 10.5,9.5; M33 11.5,9.5; M34 12.5,9.5; M35 13.5,9.5; M36 14.5,9.5; M37 15.5,9.5; M38 16.5,9.5; M39 17.5,9.5; M40 18.5,9.5; M41 19.5,9.5; M42 20.5,9.5; N1 -20.5,8.5; N2 -19.5,8.5; N3 -18.5,8.5; N4 -17.5,8.5; N5 -16.5,8.5; N6 -15.5,8.5; N7 -14.5,8.5; N8 -13.5,8.5; N9 -12.5,8.5; N10 -11.5,8.5; N11 -10.5,8.5; N12 -9.5,8.5; N13 -8.5,8.5; N14 -7.5,8.5; N15 -6.5,8.5; N16 -5.5,8.5; N17 -4.5,8.5; N18 -3.5,8.5; N19 -2.5,8.5; N20 -1.5,8.5; N21 -0.5,8.5; N22 0.5,8.5; N23 1.5,8.5; N24 2.5,8.5; N25 3.5,8.5; N26 4.5,8.5; N27 5.5,8.5; N28 6.5,8.5; N29 7.5,8.5; N30 8.5,8.5; N31 9.5,8.5; N32 10.5,8.5; N33 11.5,8.5; N34 12.5,8.5; N35 13.5,8.5; N36 14.5,8.5; N37 15.5,8.5; N38 16.5,8.5; N39 17.5,8.5; N40 18.5,8.5; N41 19.5,8.5; N42 20.5,8.5; P1 -20.5,7.5; P2 -19.5,7.5; P3 -18.5,7.5; P4 -17.5,7.5; P5 -16.5,7.5; P6 -15.5,7.5; P7 -14.5,7.5; P8 -13.5,7.5; P9 -12.5,7.5; P10 -11.5,7.5; P11 -10.5,7.5; P12 -9.5,7.5; P13 -8.5,7.5; P14 -7.5,7.5; P15 -6.5,7.5; P16 -5.5,7.5; P17 -4.5,7.5; P18 -3.5,7.5; P19 -2.5,7.5; P20 -1.5,7.5; P21 -0.5,7.5; P22 0.5,7.5; P23 1.5,7.5; P24 2.5,7.5; P25 3.5,7.5; P26 4.5,7.5; P27 5.5,7.5; P28 6.5,7.5; P29 7.5,7.5; P30 8.5,7.5; P31 9.5,7.5; P32 10.5,7.5; P33 11.5,7.5; P34 12.5,7.5; P35 13.5,7.5; P36 14.5,7.5; P37 15.5,7.5; P38 16.5,7.5; P39 17.5,7.5; P40 18.5,7.5; P41 19.5,7.5; P42 20.5,7.5; R2 -19.5,6.5; R3 -18.5,6.5; R4 -17.5,6.5; R5 -16.5,6.5; R6 -15.5,6.5; R7 -14.5,6.5; R8 -13.5,6.5; R9 -12.5,6.5; R10 -11.5,6.5; R11 -10.5,6.5; R12 -9.5,6.5; R13 -8.5,6.5; R14 -7.5,6.5; R15 -6.5,6.5; R16 -5.5,6.5; R17 -4.5,6.5; R18 -3.5,6.5; R19 -2.5,6.5; R20 -1.5,6.5; R21 -0.5,6.5; R22 0.5,6.5; R23 1.5,6.5; R24 2.5,6.5; R25 3.5,6.5; R26 4.5,6.5; R27 5.5,6.5; R28 6.5,6.5; R29 7.5,6.5; R30 8.5,6.5; R31 9.5,6.5; R32 10.5,6.5; R33 11.5,6.5; R34 12.5,6.5; R35 13.5,6.5; R36 14.5,6.5; R37 15.5,6.5; R38 16.5,6.5; R39 17.5,6.5; R40 18.5,6.5; R41 19.5,6.5; R42 20.5,6.5; T2 -19.5,5.5; T3 -18.5,5.5; T4 -17.5,5.5; T5 -16.5,5.5; T6 -15.5,5.5; T7 -14.5,5.5; T8 -13.5,5.5; T9 -12.5,5.5; T10 -11.5,5.5; T11 -10.5,5.5; T12 -9.5,5.5; T13 -8.5,5.5; T14 -7.5,5.5; T15 -6.5,5.5; T16 -5.5,5.5; T17 -4.5,5.5; T18 -3.5,5.5; T19 -2.5,5.5; T20 -1.5,5.5; T21 -0.5,5.5; T22 0.5,5.5; T23 1.5,5.5; T24 2.5,5.5; T25 3.5,5.5; T26 4.5,5.5; T27 5.5,5.5; T28 6.5,5.5; T29 7.5,5.5; T30 8.5,5.5; T31 9.5,5.5; T32 10.5,5.5; T33 11.5,5.5; T34 12.5,5.5; T35 13.5,5.5; T36 14.5,5.5; T37 15.5,5.5; T38 16.5,5.5; T39 17.5,5.5; T40 18.5,5.5; T41 19.5,5.5; T42 20.5,5.5; U1 -20.5,4.5; U2 -19.5,4.5; U3 -18.5,4.5; U4 -17.5,4.5; U5 -16.5,4.5; U6 -15.5,4.5; U7 -14.5,4.5; U8 -13.5,4.5; U9 -12.5,4.5; U10 -11.5,4.5; U11 -10.5,4.5; U12 -9.5,4.5; U13 -8.5,4.5; U14 -7.5,4.5; U15 -6.5,4.5; U16 -5.5,4.5; U17 -4.5,4.5; U18 -3.5,4.5; U19 -2.5,4.5; U20 -1.5,4.5; U21 -0.5,4.5; U22 0.5,4.5; U23 1.5,4.5; U24 2.5,4.5; U25 3.5,4.5; U26 4.5,4.5; U27 5.5,4.5; U28 6.5,4.5; U29 7.5,4.5; U30 8.5,4.5; U31 9.5,4.5; U32 10.5,4.5; U33 11.5,4.5; U34 12.5,4.5; U35 13.5,4.5; U36 14.5,4.5; U37 15.5,4.5; U38 16.5,4.5; U39 17.5,4.5; U40 18.5,4.5; U41 19.5,4.5; U42 20.5,4.5; V1 -20.5,3.5; V2 -19.5,3.5; V3 -18.5,3.5; V4 -17.5,3.5; V5 -16.5,3.5; V6 -15.5,3.5; V7 -14.5,3.5; V8 -13.5,3.5; V9 -12.5,3.5; V10 -11.5,3.5; V11 -10.5,3.5; V12 -9.5,3.5; V13 -8.5,3.5; V14 -7.5,3.5; V15 -6.5,3.5; V16 -5.5,3.5; V17 -4.5,3.5; V18 -3.5,3.5; V19 -2.5,3.5; V20 -1.5,3.5; V21 -0.5,3.5; V22 0.5,3.5; V23 1.5,3.5; V24 2.5,3.5; V25 3.5,3.5; V26 4.5,3.5; V27 5.5,3.5; V28 6.5,3.5; V29 7.5,3.5; V30 8.5,3.5; V31 9.5,3.5; V32 10.5,3.5; V33 11.5,3.5; V34 12.5,3.5; V35 13.5,3.5; V36 14.5,3.5; V37 15.5,3.5; V38 16.5,3.5; V39 17.5,3.5; V40 18.5,3.5; V41 19.5,3.5; V42 20.5,3.5; W1 -20.5,2.5; W2 -19.5,2.5; W3 -18.5,2.5; W4 -17.5,2.5; W5 -16.5,2.5; W6 -15.5,2.5; W7 -14.5,2.5; W8 -13.5,2.5; W9 -12.5,2.5; W10 -11.5,2.5; W11 -10.5,2.5; W12 -9.5,2.5; W13 -8.5,2.5; W14 -7.5,2.5; W15 -6.5,2.5; W16 -5.5,2.5; W17 -4.5,2.5; W18 -3.5,2.5; W19 -2.5,2.5; W20 -1.5,2.5; W21 -0.5,2.5; W22 0.5,2.5; W23 1.5,2.5; W24 2.5,2.5; W25 3.5,2.5; W26 4.5,2.5; W27 5.5,2.5; W28 6.5,2.5; W29 7.5,2.5; W30 8.5,2.5; W31 9.5,2.5; W32 10.5,2.5; W33 11.5,2.5; W34 12.5,2.5; W35 13.5,2.5; W36 14.5,2.5; W37 15.5,2.5; W38 16.5,2.5; W39 17.5,2.5; W40 18.5,2.5; W41 19.5,2.5; W42 20.5,2.5; Y1 -20.5,1.5; Y2 -19.5,1.5; Y3 -18.5,1.5; Y4 -17.5,1.5; Y5 -16.5,1.5; Y6 -15.5,1.5; Y7 -14.5,1.5; Y8 -13.5,1.5; Y9 -12.5,1.5; Y10 -11.5,1.5; Y11 -10.5,1.5; Y12 -9.5,1.5; Y13 -8.5,1.5; Y14 -7.5,1.5; Y15 -6.5,1.5; Y16 -5.5,1.5; Y17 -4.5,1.5; Y18 -3.5,1.5; Y19 -2.5,1.5; Y20 -1.5,1.5; Y21 -0.5,1.5; Y22 0.5,1.5; Y23 1.5,1.5; Y24 2.5,1.5; Y25 3.5,1.5; Y26 4.5,1.5; Y27 5.5,1.5; Y28 6.5,1.5; Y29 7.5,1.5; Y30 8.5,1.5; Y31 9.5,1.5; Y32 10.5,1.5; Y33 11.5,1.5; Y34 12.5,1.5; Y35 13.5,1.5; Y36 14.5,1.5; Y37 15.5,1.5; Y38 16.5,1.5; Y39 17.5,1.5; Y40 18.5,1.5; Y41 19.5,1.5; Y42 20.5,1.5